# Altium schematic symbol library NXP Semiconductors Cortex-M3.SchLib: 52 symbols (part 2 of 7)
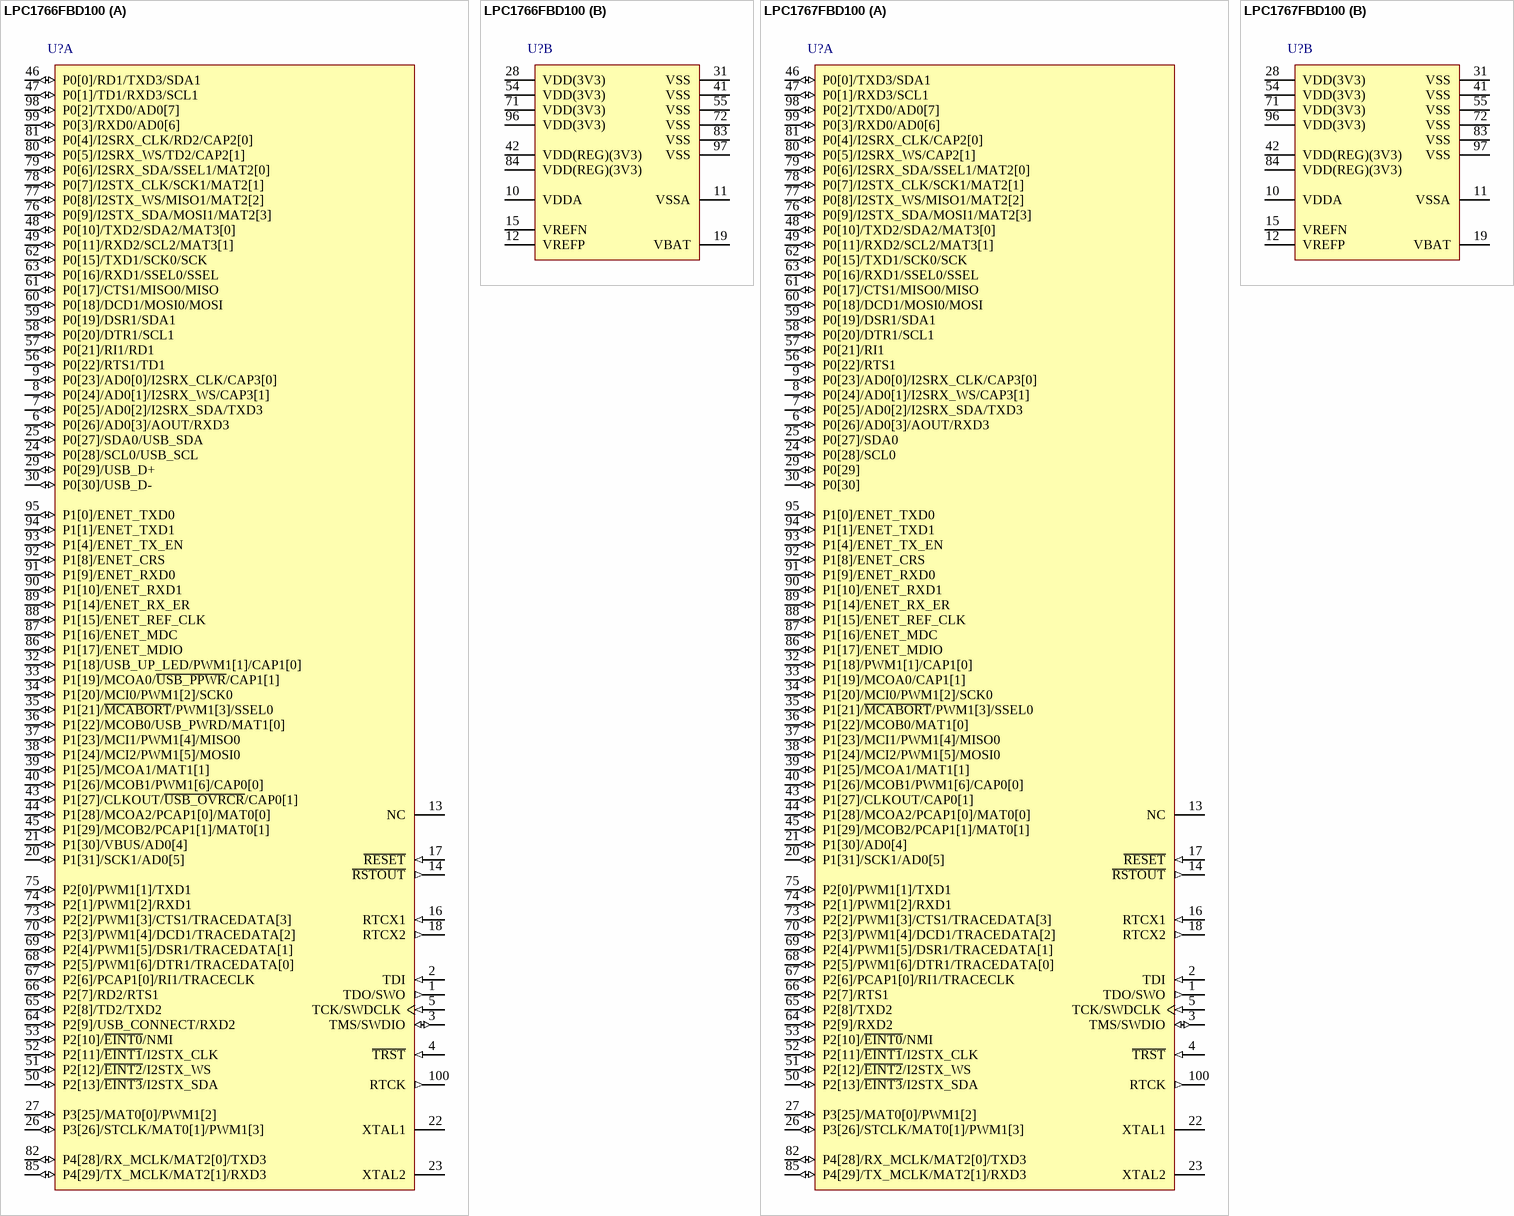
[diagram p47: symbols LPC1766FBD100 to LPC1767FBD100]

## LPC1767FBD100
designator U?
Cortex-M3, 32-Bit ARM MCU, 512 kB flash, 64 kB SRAM, Ethernet, 12-Bit ADC, DAC, I2S, 100-Pin LQFP; PartNumber: LPC1767FBD100; fmax: 100 MHz; SRAM: 64 kB; Flash: 512 kB; GPIOs: 70; UART: 4; SPI: 1; SSP: 2; PWM: 6; PLL: Y; ADC channels: 8; VDD (min): 2.4 V; VDD (typ): 3.3 V; VDD (max): 3.6 V; Code_IEC: 136E20; DatasheetVersion: Rev. 8, Nov-2011; PackageVersion: 37672; PackageReference: SOT407-1; PackageDescription: LQFP100: Plastic Low Profile Quad Flat Package; 100 Leads; Body 14 x 14 x 1.4 mm; Timers: 4; Code_JEDEC: MS-026; ComponentLink1Description: Manufacturer URL; ComponentLink1URL: http://www.nxp.com/; ComponentLink2Description: Datasheet; ComponentLink2URL: http://www.nxp.com/documents/data_sheet/LPC1769_68_67_66_65_64_63.pdf
footprint SOT407-1_V (Thin QFP, 100-Leads, Body 14x14mm, Pitch 0.5mm, NXP Recommended)
footprint SOT407-1_N (Thin QFP, 100-Leads, Body 14x14mm, Pitch 0.5mm, IPC Medium Density)
footprint SOT407-1_L (Thin QFP, 100-Leads, Body 14x14mm, Pitch 0.5mm, IPC High Density)
footprint SOT407-1_M (Thin QFP, 100-Leads, Body 14x14mm, Pitch 0.5mm, IPC Low Density)
part A pins: 1 TDO/SWO (out), 2 TDI (in), 3 TMS/SWDIO (io), 4 ~{TRST} (in), 5 TCK/SWDCLK (in), 6 P0[26]/AD0[3]/AOUT/RXD3 (io), 7 P0[25]/AD0[2]/I2SRX_SDA/TXD3 (io), 8 P0[24]/AD0[1]/I2SRX_WS/CAP3[1] (io), 9 P0[23]/AD0[0]/I2SRX_CLK/CAP3[0] (io), 13 NC, 14 ~{RSTOUT} (out), 16 RTCX1 (in), 17 ~{RESET} (in), 18 RTCX2 (out), 20 P1[31]/SCK1/AD0[5] (io), 21 P1[30]/AD0[4] (io), 22 XTAL1, 23 XTAL2, 24 P0[28]/SCL0 (io), 25 P0[27]/SDA0 (io), 26 P3[26]/STCLK/MAT0[1]/PWM1[3] (io), 27 P3[25]/MAT0[0]/PWM1[2] (io), 29 P0[29] (io), 30 P0[30] (io), 32 P1[18]/PWM1[1]/CAP1[0] (io), 33 P1[19]/MCOA0/CAP1[1] (io), 34 P1[20]/MCI0/PWM1[2]/SCK0 (io), 35 P1[21]/~{MCABORT}/PWM1[3]/SSEL0 (io), 36 P1[22]/MCOB0/MAT1[0] (io), 37 P1[23]/MCI1/PWM1[4]/MISO0 (io), 38 P1[24]/MCI2/PWM1[5]/MOSI0 (io), 39 P1[25]/MCOA1/MAT1[1] (io), 40 P1[26]/MCOB1/PWM1[6]/CAP0[0] (io), 43 P1[27]/CLKOUT/CAP0[1] (io), 44 P1[28]/MCOA2/PCAP1[0]/MAT0[0] (io), 45 P1[29]/MCOB2/PCAP1[1]/MAT0[1] (io), 46 P0[0]/TXD3/SDA1 (io), 47 P0[1]/RXD3/SCL1 (io), 48 P0[10]/TXD2/SDA2/MAT3[0] (io), 49 P0[11]/RXD2/SCL2/MAT3[1] (io), 50 P2[13]/~{EINT3}/I2STX_SDA (io), 51 P2[12]/~{EINT2}/I2STX_WS (io), 52 P2[11]/~{EINT1}/I2STX_CLK (io), 53 P2[10]/~{EINT0}/NMI (io), 56 P0[22]/RTS1 (io), 57 P0[21]/RI1 (io), 58 P0[20]/DTR1/SCL1 (io), 59 P0[19]/DSR1/SDA1 (io), 60 P0[18]/DCD1/MOSI0/MOSI (io), 61 P0[17]/CTS1/MISO0/MISO (io), 62 P0[15]/TXD1/SCK0/SCK (io), 63 P0[16]/RXD1/SSEL0/SSEL (io), 64 P2[9]/RXD2 (io), 65 P2[8]/TXD2 (io), 66 P2[7]/RTS1 (io), 67 P2[6]/PCAP1[0]/RI1/TRACECLK (io), 68 P2[5]/PWM1[6]/DTR1/TRACEDATA[0] (io), 69 P2[4]/PWM1[5]/DSR1/TRACEDATA[1] (io), 70 P2[3]/PWM1[4]/DCD1/TRACEDATA[2] (io), 73 P2[2]/PWM1[3]/CTS1/TRACEDATA[3] (io), 74 P2[1]/PWM1[2]/RXD1 (io), 75 P2[0]/PWM1[1]/TXD1 (io), 76 P0[9]/I2STX_SDA/MOSI1/MAT2[3] (io), 77 P0[8]/I2STX_WS/MISO1/MAT2[2] (io), 78 P0[7]/I2STX_CLK/SCK1/MAT2[1] (io), 79 P0[6]/I2SRX_SDA/SSEL1/MAT2[0] (io), 80 P0[5]/I2SRX_WS/CAP2[1] (io), 81 P0[4]/I2SRX_CLK/CAP2[0] (io), 82 P4[28]/RX_MCLK/MAT2[0]/TXD3 (io), 85 P4[29]/TX_MCLK/MAT2[1]/RXD3 (io), 86 P1[17]/ENET_MDIO (io), 87 P1[16]/ENET_MDC (io), 88 P1[15]/ENET_REF_CLK (io), 89 P1[14]/ENET_RX_ER (io), 90 P1[10]/ENET_RXD1 (io), 91 P1[9]/ENET_RXD0 (io), 92 P1[8]/ENET_CRS (io), 93 P1[4]/ENET_TX_EN (io), 94 P1[1]/ENET_TXD1 (io), 95 P1[0]/ENET_TXD0 (io), 98 P0[2]/TXD0/AD0[7] (io), 99 P0[3]/RXD0/AD0[6] (io), 100 RTCK (out)
part B pins: 10 VDDA (power), 11 VSSA (power), 12 VREFP (power), 15 VREFN (power), 19 VBAT (power), 28 VDD(3V3) (power), 31 VSS (power), 41 VSS (power), 42 VDD(REG)(3V3) (power), 54 VDD(3V3) (power), 55 VSS (power), 71 VDD(3V3) (power), 72 VSS (power), 83 VSS (power), 84 VDD(REG)(3V3) (power), 96 VDD(3V3) (power), 97 VSS (power)

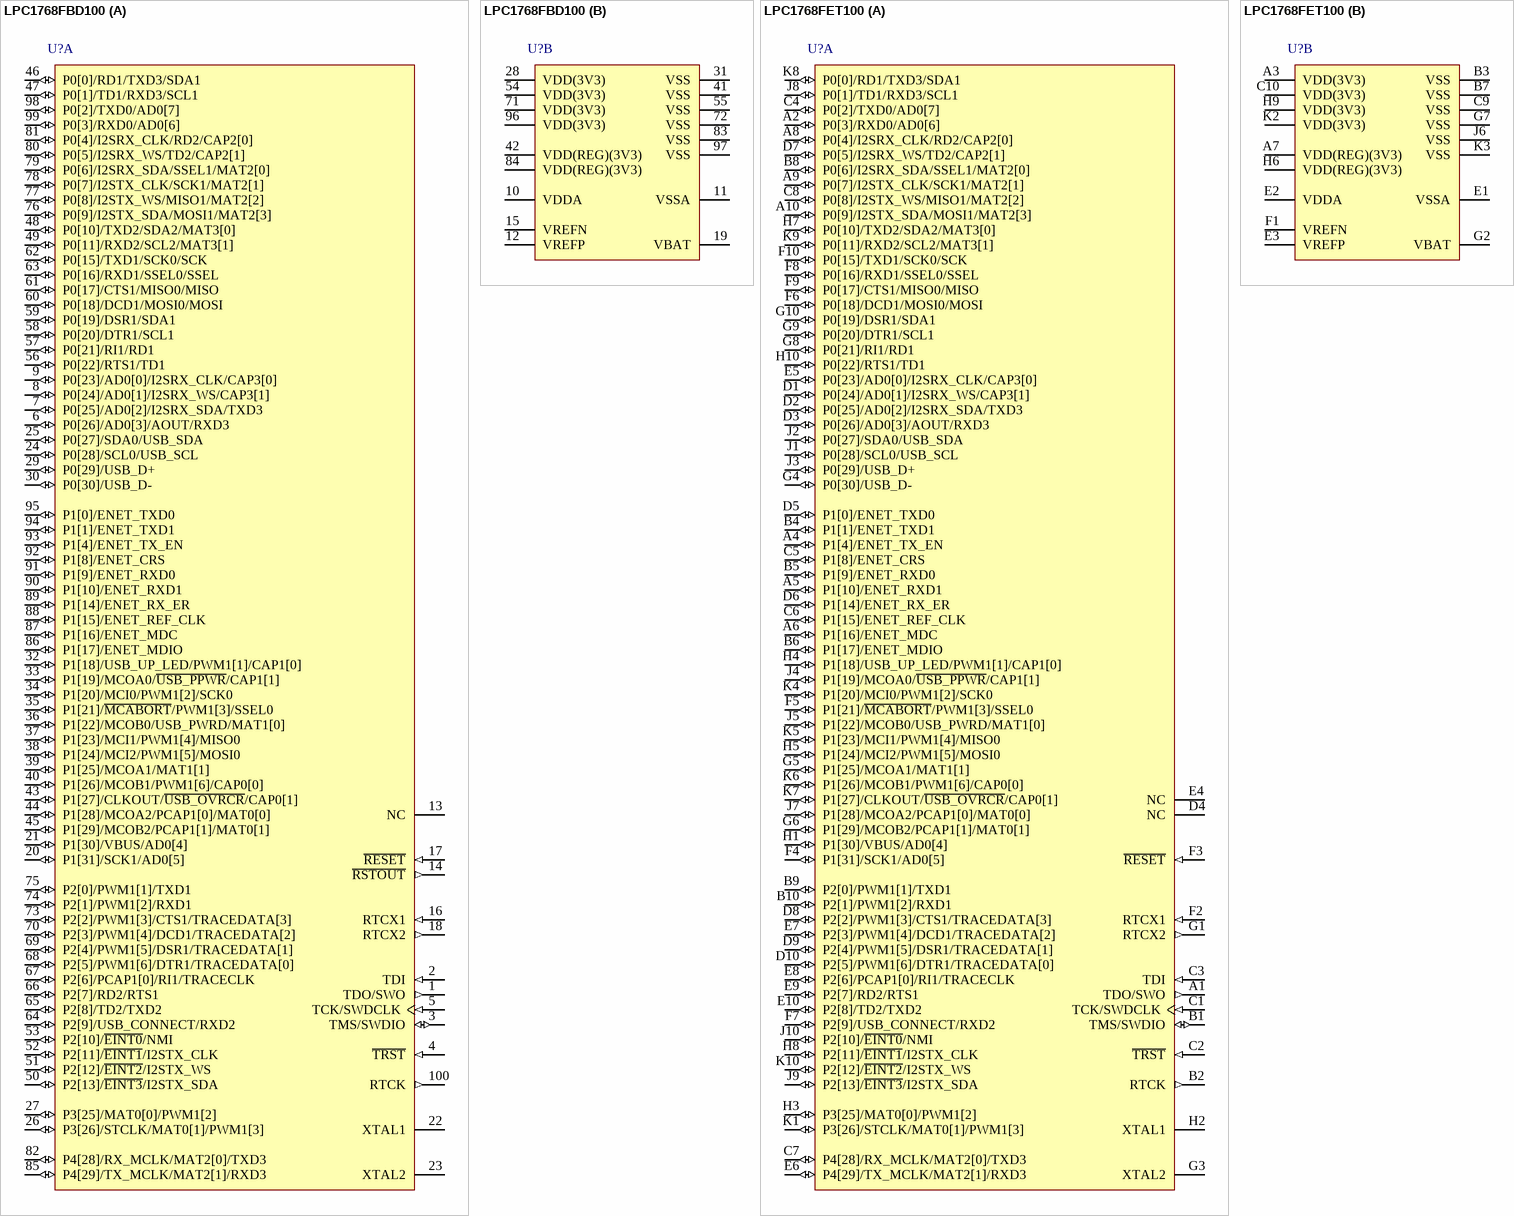
[diagram p7: symbols LPC1768FBD100 to LPC1768FET100]

## LPC1768FBD100
designator U?
32-bit ARM Cortex-M3 MCU, 512 kB Flash, 64 kB SRAM, Ethernet, USB 2.0 Device/Host/OTG, 12-Bit ADC, DAC, I2S, 100-Pin LQFP; PartNumber: LPC1768FBD100; fmax: 100 MHz; SRAM: 64 kB; Flash: 512 kB; GPIOs: 70; USB: 1; CAN: 2; UART: 4; PWM: 6; PLL: Y; ADC channels: 8; VDD (min): 2.4 V; VDD (typ): 3.3 V; VDD (max): 3.6 V; Code_IEC: 136E20; DatasheetVersion: Rev. 8, Nov-2011; PackageVersion: Feb-2003; PackageReference: SOT407-1; PackageDescription: LQFP100: Plastic Low Profile Quad Flat Package; 100 Leads; Body 14 x 14 x 1.4 mm; SPI: 1; SSP: 2; Timers: 4; Code_JEDEC: MS-026; ComponentLink1Description: Manufacturer URL; ComponentLink1URL: http://www.nxp.com/; ComponentLink2Description: Datasheet; ComponentLink2URL: http://www.nxp.com/documents/data_sheet/LPC1769_68_67_66_65_64_63.pdf
footprint SOT407-1_V (Thin QFP, 100-Leads, Body 14x14mm, Pitch 0.5mm, NXP Recommended)
footprint SOT407-1_N (Thin QFP, 100-Leads, Body 14x14mm, Pitch 0.5mm, IPC Medium Density)
footprint SOT407-1_L (Thin QFP, 100-Leads, Body 14x14mm, Pitch 0.5mm, IPC High Density)
footprint SOT407-1_M (Thin QFP, 100-Leads, Body 14x14mm, Pitch 0.5mm, IPC Low Density)
part A pins: 1 TDO/SWO (out), 2 TDI (in), 3 TMS/SWDIO (io), 4 ~{TRST} (in), 5 TCK/SWDCLK (in), 6 P0[26]/AD0[3]/AOUT/RXD3 (io), 7 P0[25]/AD0[2]/I2SRX_SDA/TXD3 (io), 8 P0[24]/AD0[1]/I2SRX_WS/CAP3[1] (io), 9 P0[23]/AD0[0]/I2SRX_CLK/CAP3[0] (io), 13 NC, 14 ~{RSTOUT} (out), 16 RTCX1 (in), 17 ~{RESET} (in), 18 RTCX2 (out), 20 P1[31]/SCK1/AD0[5] (io), 21 P1[30]/VBUS/AD0[4] (io), 22 XTAL1, 23 XTAL2, 24 P0[28]/SCL0/USB_SCL (io), 25 P0[27]/SDA0/USB_SDA (io), 26 P3[26]/STCLK/MAT0[1]/PWM1[3] (io), 27 P3[25]/MAT0[0]/PWM1[2] (io), 29 P0[29]/USB_D+ (io), 30 P0[30]/USB_D- (io), 32 P1[18]/USB_UP_LED/PWM1[1]/CAP1[0] (io), 33 P1[19]/MCOA0/~{USB_PPWR}/CAP1[1] (io), 34 P1[20]/MCI0/PWM1[2]/SCK0 (io), 35 P1[21]/~{MCABORT}/PWM1[3]/SSEL0 (io), 36 P1[22]/MCOB0/USB_PWRD/MAT1[0] (io), 37 P1[23]/MCI1/PWM1[4]/MISO0 (io), 38 P1[24]/MCI2/PWM1[5]/MOSI0 (io), 39 P1[25]/MCOA1/MAT1[1] (io), 40 P1[26]/MCOB1/PWM1[6]/CAP0[0] (io), 43 P1[27]/CLKOUT/~{USB_OVRCR}/CAP0[1] (io), 44 P1[28]/MCOA2/PCAP1[0]/MAT0[0] (io), 45 P1[29]/MCOB2/PCAP1[1]/MAT0[1] (io), 46 P0[0]/RD1/TXD3/SDA1 (io), 47 P0[1]/TD1/RXD3/SCL1 (io), 48 P0[10]/TXD2/SDA2/MAT3[0] (io), 49 P0[11]/RXD2/SCL2/MAT3[1] (io), 50 P2[13]/~{EINT3}/I2STX_SDA (io), 51 P2[12]/~{EINT2}/I2STX_WS (io), 52 P2[11]/~{EINT1}/I2STX_CLK (io), 53 P2[10]/~{EINT0}/NMI (io), 56 P0[22]/RTS1/TD1 (io), 57 P0[21]/RI1/RD1 (io), 58 P0[20]/DTR1/SCL1 (io), 59 P0[19]/DSR1/SDA1 (io), 60 P0[18]/DCD1/MOSI0/MOSI (io), 61 P0[17]/CTS1/MISO0/MISO (io), 62 P0[15]/TXD1/SCK0/SCK (io), 63 P0[16]/RXD1/SSEL0/SSEL (io), 64 P2[9]/USB_CONNECT/RXD2 (io), 65 P2[8]/TD2/TXD2 (io), 66 P2[7]/RD2/RTS1 (io), 67 P2[6]/PCAP1[0]/RI1/TRACECLK (io), 68 P2[5]/PWM1[6]/DTR1/TRACEDATA[0] (io), 69 P2[4]/PWM1[5]/DSR1/TRACEDATA[1] (io), 70 P2[3]/PWM1[4]/DCD1/TRACEDATA[2] (io), 73 P2[2]/PWM1[3]/CTS1/TRACEDATA[3] (io), 74 P2[1]/PWM1[2]/RXD1 (io), 75 P2[0]/PWM1[1]/TXD1 (io), 76 P0[9]/I2STX_SDA/MOSI1/MAT2[3] (io), 77 P0[8]/I2STX_WS/MISO1/MAT2[2] (io), 78 P0[7]/I2STX_CLK/SCK1/MAT2[1] (io), 79 P0[6]/I2SRX_SDA/SSEL1/MAT2[0] (io), 80 P0[5]/I2SRX_WS/TD2/CAP2[1] (io), 81 P0[4]/I2SRX_CLK/RD2/CAP2[0] (io), 82 P4[28]/RX_MCLK/MAT2[0]/TXD3 (io), 85 P4[29]/TX_MCLK/MAT2[1]/RXD3 (io), 86 P1[17]/ENET_MDIO (io), 87 P1[16]/ENET_MDC (io), 88 P1[15]/ENET_REF_CLK (io), 89 P1[14]/ENET_RX_ER (io), 90 P1[10]/ENET_RXD1 (io), 91 P1[9]/ENET_RXD0 (io), 92 P1[8]/ENET_CRS (io), 93 P1[4]/ENET_TX_EN (io), 94 P1[1]/ENET_TXD1 (io), 95 P1[0]/ENET_TXD0 (io), 98 P0[2]/TXD0/AD0[7] (io), 99 P0[3]/RXD0/AD0[6] (io), 100 RTCK (out)
part B pins: 10 VDDA (power), 11 VSSA (power), 12 VREFP (power), 15 VREFN (power), 19 VBAT (power), 28 VDD(3V3) (power), 31 VSS (power), 41 VSS (power), 42 VDD(REG)(3V3) (power), 54 VDD(3V3) (power), 55 VSS (power), 71 VDD(3V3) (power), 72 VSS (power), 83 VSS (power), 84 VDD(REG)(3V3) (power), 96 VDD(3V3) (power), 97 VSS (power)

## LPC1768FET100
designator U?
32-bit ARM Cortex-M3 MCU, 512 kB Flash, 64 kB SRAM, Ethernet, USB 2.0 Device/Host/OTG, 12-Bit ADC, DAC, I2S, 100-Ball TFBGA; PartNumber: LPC1768FET100; fmax: 100 MHz; SRAM: 64 kB; Flash: 512 kB; GPIOs: 70; USB: 1; CAN: 2; UART: 4; PWM: 6; PLL: Y; ADC channels: 8; VDD (min): 2.4 V; VDD (typ): 3.3 V; VDD (max): 3.6 V; DatasheetVersion: Rev. 8, Nov-2011; PackageVersion: Dec-2005; PackageReference: SOT926-1; PackageDescription: TFBGA100: Plastic Thin Fine-Pitch Ball Grid Array Package; 100 Balls; Body 9 x 9 x 0.7 mm; SPI: 1; SSP: 2; Timers: 4; ComponentLink1Description: Manufacturer URL; ComponentLink1URL: http://www.nxp.com/; ComponentLink2Description: Datasheet; ComponentLink2URL: http://www.nxp.com/documents/data_sheet/LPC1769_68_67_66_65_64_63.pdf
footprint SOT926-1 (BGA, 100-Leads, Body 9x9mm, Pitch 0.8mm)
part A pins: A1 TDO/SWO (out), A2 P0[3]/RXD0/AD0[6] (io), A4 P1[4]/ENET_TX_EN (io), A5 P1[10]/ENET_RXD1 (io), A6 P1[16]/ENET_MDC (io), A8 P0[4]/I2SRX_CLK/RD2/CAP2[0] (io), A9 P0[7]/I2STX_CLK/SCK1/MAT2[1] (io), A10 P0[9]/I2STX_SDA/MOSI1/MAT2[3] (io), B1 TMS/SWDIO (io), B2 RTCK (out), B4 P1[1]/ENET_TXD1 (io), B5 P1[9]/ENET_RXD0 (io), B6 P1[17]/ENET_MDIO (io), B8 P0[6]/I2SRX_SDA/SSEL1/MAT2[0] (io), B9 P2[0]/PWM1[1]/TXD1 (io), B10 P2[1]/PWM1[2]/RXD1 (io), C1 TCK/SWDCLK (in), C2 ~{TRST} (in), C3 TDI (in), C4 P0[2]/TXD0/AD0[7] (io), C5 P1[8]/ENET_CRS (io), C6 P1[15]/ENET_REF_CLK (io), C7 P4[28]/RX_MCLK/MAT2[0]/TXD3 (io), C8 P0[8]/I2STX_WS/MISO1/MAT2[2] (io), D1 P0[24]/AD0[1]/I2SRX_WS/CAP3[1] (io), D2 P0[25]/AD0[2]/I2SRX_SDA/TXD3 (io), D3 P0[26]/AD0[3]/AOUT/RXD3 (io), D4 NC, D5 P1[0]/ENET_TXD0 (io), D6 P1[14]/ENET_RX_ER (io), D7 P0[5]/I2SRX_WS/TD2/CAP2[1] (io), D8 P2[2]/PWM1[3]/CTS1/TRACEDATA[3] (io), D9 P2[4]/PWM1[5]/DSR1/TRACEDATA[1] (io), D10 P2[5]/PWM1[6]/DTR1/TRACEDATA[0] (io), E4 NC, E5 P0[23]/AD0[0]/I2SRX_CLK/CAP3[0] (io), E6 P4[29]/TX_MCLK/MAT2[1]/RXD3 (io), E7 P2[3]/PWM1[4]/DCD1/TRACEDATA[2] (io), E8 P2[6]/PCAP1[0]/RI1/TRACECLK (io), E9 P2[7]/RD2/RTS1 (io), E10 P2[8]/TD2/TXD2 (io), F2 RTCX1 (in), F3 ~{RESET} (in), F4 P1[31]/SCK1/AD0[5] (io), F5 P1[21]/~{MCABORT}/PWM1[3]/SSEL0 (io), F6 P0[18]/DCD1/MOSI0/MOSI (io), F7 P2[9]/USB_CONNECT/RXD2 (io), F8 P0[16]/RXD1/SSEL0/SSEL (io), F9 P0[17]/CTS1/MISO0/MISO (io), F10 P0[15]/TXD1/SCK0/SCK (io), G1 RTCX2 (out), G3 XTAL2, G4 P0[30]/USB_D- (io), G5 P1[25]/MCOA1/MAT1[1] (io), G6 P1[29]/MCOB2/PCAP1[1]/MAT0[1] (io), G8 P0[21]/RI1/RD1 (io), G9 P0[20]/DTR1/SCL1 (io), G10 P0[19]/DSR1/SDA1 (io), H1 P1[30]/VBUS/AD0[4] (io), H2 XTAL1, H3 P3[25]/MAT0[0]/PWM1[2] (io), H4 P1[18]/USB_UP_LED/PWM1[1]/CAP1[0] (io), H5 P1[24]/MCI2/PWM1[5]/MOSI0 (io), H7 P0[10]/TXD2/SDA2/MAT3[0] (io), H8 P2[11]/~{EINT1}/I2STX_CLK (io), H10 P0[22]/RTS1/TD1 (io), J1 P0[28]/SCL0/USB_SCL (io), J2 P0[27]/SDA0/USB_SDA (io), J3 P0[29]/USB_D+ (io), J4 P1[19]/MCOA0/~{USB_PPWR}/CAP1[1] (io), J5 P1[22]/MCOB0/USB_PWRD/MAT1[0] (io), J7 P1[28]/MCOA2/PCAP1[0]/MAT0[0] (io), J8 P0[1]/TD1/RXD3/SCL1 (io), J9 P2[13]/~{EINT3}/I2STX_SDA (io), J10 P2[10]/~{EINT0}/NMI (io), K1 P3[26]/STCLK/MAT0[1]/PWM1[3] (io), K4 P1[20]/MCI0/PWM1[2]/SCK0 (io), K5 P1[23]/MCI1/PWM1[4]/MISO0 (io), K6 P1[26]/MCOB1/PWM1[6]/CAP0[0] (io), K7 P1[27]/CLKOUT/~{USB_OVRCR}/CAP0[1] (io), K8 P0[0]/RD1/TXD3/SDA1 (io), K9 P0[11]/RXD2/SCL2/MAT3[1] (io), K10 P2[12]/~{EINT2}/I2STX_WS (io)
part B pins: A3 VDD(3V3) (power), A7 VDD(REG)(3V3) (power), B3 VSS (power), B7 VSS (power), C9 VSS (power), C10 VDD(3V3) (power), E1 VSSA (power), E2 VDDA (power), E3 VREFP (power), F1 VREFN (power), G2 VBAT (power), G7 VSS (power), H6 VDD(REG)(3V3) (power), H9 VDD(3V3) (power), J6 VSS (power), K2 VDD(3V3) (power), K3 VSS (power)

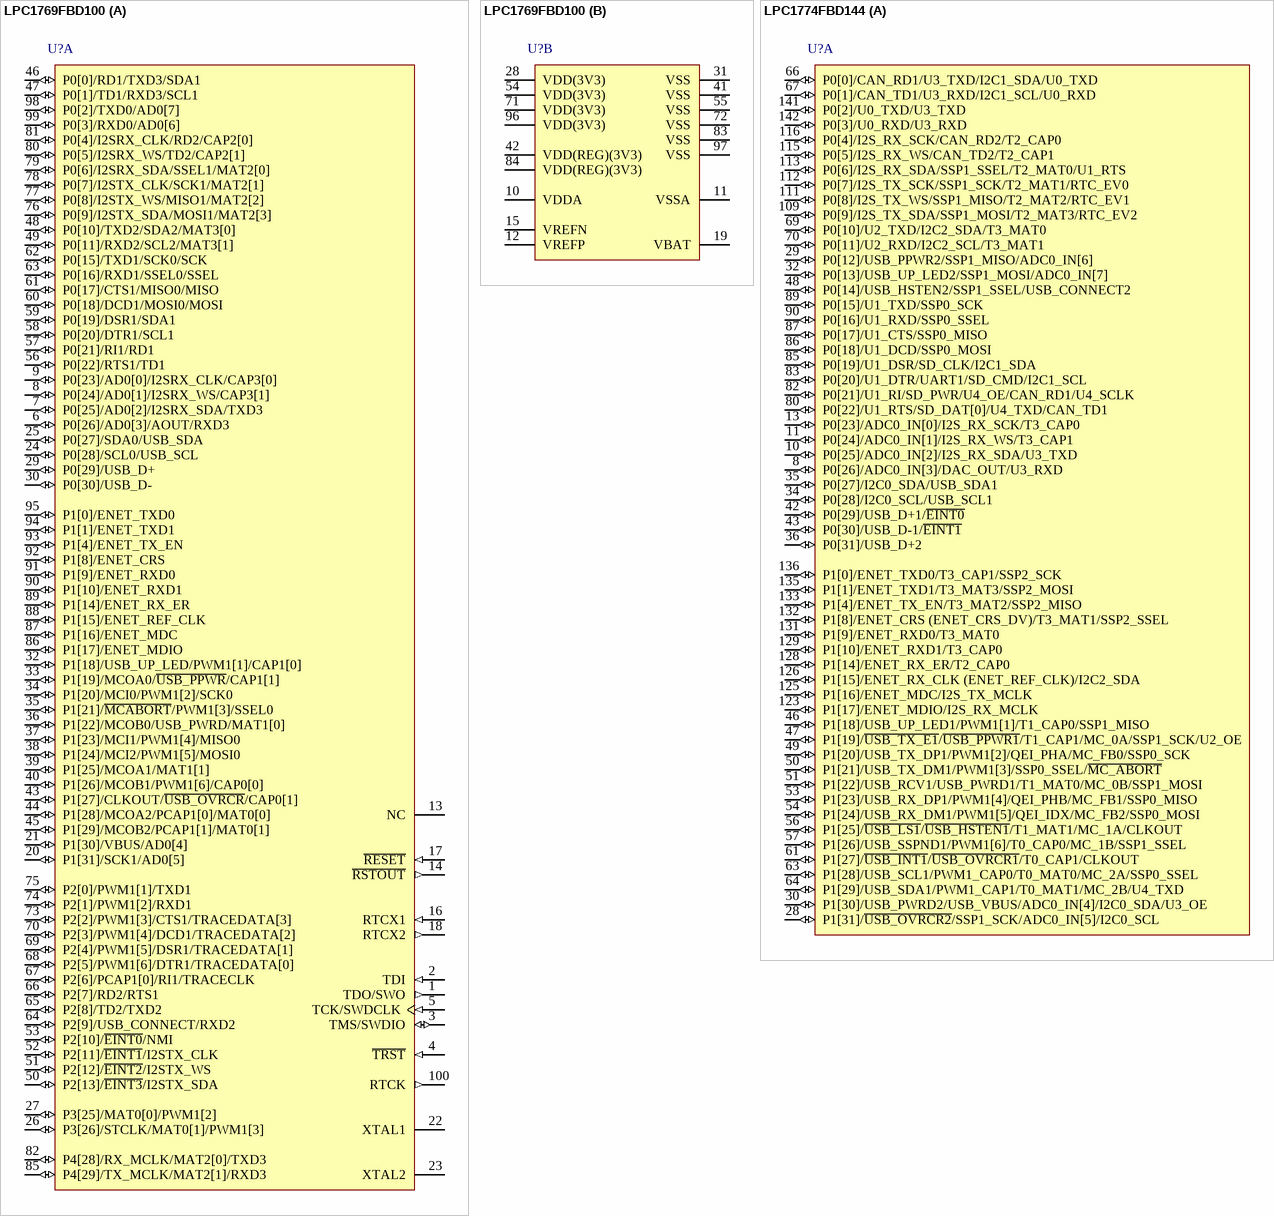
[diagram p8: symbols LPC1769FBD100 to LPC1774FBD144]

## LPC1769FBD100
designator U?
32-bit ARM Cortex-M3 MCU, 512 kB Flash, 64 kB SRAM, Ethernet, USB 2.0 Device/Host/OTG, 12-Bit ADC, DAC, I2S, 100-Pin LQFP; PartNumber: LPC1769FBD100; fmax: 120 MHz; SRAM: 64 kB; Flash: 512 kB; GPIOs: 70; USB: 1; CAN: 2; UART: 4; PWM: 6; PLL: Y; ADC channels: 8; VDD (min): 2.4 V; VDD (typ): 3.3 V; VDD (max): 3.6 V; Code_IEC: 136E20; DatasheetVersion: Rev. 8, Nov-2011; PackageVersion: Feb-2003; PackageReference: SOT407-1; PackageDescription: LQFP100: Plastic Low Profile Quad Flat Package; 100 Leads; Body 14 x 14 x 1.4 mm; SPI: 1; SSP: 2; Timers: 4; Code_JEDEC: MS-026; ComponentLink1Description: Manufacturer URL; ComponentLink1URL: http://www.nxp.com/; ComponentLink2Description: Datasheet; ComponentLink2URL: http://www.nxp.com/documents/data_sheet/LPC1769_68_67_66_65_64_63.pdf
footprint SOT407-1_V (Thin QFP, 100-Leads, Body 14x14mm, Pitch 0.5mm, NXP Recommended)
footprint SOT407-1_N (Thin QFP, 100-Leads, Body 14x14mm, Pitch 0.5mm, IPC Medium Density)
footprint SOT407-1_L (Thin QFP, 100-Leads, Body 14x14mm, Pitch 0.5mm, IPC High Density)
footprint SOT407-1_M (Thin QFP, 100-Leads, Body 14x14mm, Pitch 0.5mm, IPC Low Density)
part A pins: 1 TDO/SWO (out), 2 TDI (in), 3 TMS/SWDIO (io), 4 ~{TRST} (in), 5 TCK/SWDCLK (in), 6 P0[26]/AD0[3]/AOUT/RXD3 (io), 7 P0[25]/AD0[2]/I2SRX_SDA/TXD3 (io), 8 P0[24]/AD0[1]/I2SRX_WS/CAP3[1] (io), 9 P0[23]/AD0[0]/I2SRX_CLK/CAP3[0] (io), 13 NC, 14 ~{RSTOUT} (out), 16 RTCX1 (in), 17 ~{RESET} (in), 18 RTCX2 (out), 20 P1[31]/SCK1/AD0[5] (io), 21 P1[30]/VBUS/AD0[4] (io), 22 XTAL1, 23 XTAL2, 24 P0[28]/SCL0/USB_SCL (io), 25 P0[27]/SDA0/USB_SDA (io), 26 P3[26]/STCLK/MAT0[1]/PWM1[3] (io), 27 P3[25]/MAT0[0]/PWM1[2] (io), 29 P0[29]/USB_D+ (io), 30 P0[30]/USB_D- (io), 32 P1[18]/USB_UP_LED/PWM1[1]/CAP1[0] (io), 33 P1[19]/MCOA0/~{USB_PPWR}/CAP1[1] (io), 34 P1[20]/MCI0/PWM1[2]/SCK0 (io), 35 P1[21]/~{MCABORT}/PWM1[3]/SSEL0 (io), 36 P1[22]/MCOB0/USB_PWRD/MAT1[0] (io), 37 P1[23]/MCI1/PWM1[4]/MISO0 (io), 38 P1[24]/MCI2/PWM1[5]/MOSI0 (io), 39 P1[25]/MCOA1/MAT1[1] (io), 40 P1[26]/MCOB1/PWM1[6]/CAP0[0] (io), 43 P1[27]/CLKOUT/~{USB_OVRCR}/CAP0[1] (io), 44 P1[28]/MCOA2/PCAP1[0]/MAT0[0] (io), 45 P1[29]/MCOB2/PCAP1[1]/MAT0[1] (io), 46 P0[0]/RD1/TXD3/SDA1 (io), 47 P0[1]/TD1/RXD3/SCL1 (io), 48 P0[10]/TXD2/SDA2/MAT3[0] (io), 49 P0[11]/RXD2/SCL2/MAT3[1] (io), 50 P2[13]/~{EINT3}/I2STX_SDA (io), 51 P2[12]/~{EINT2}/I2STX_WS (io), 52 P2[11]/~{EINT1}/I2STX_CLK (io), 53 P2[10]/~{EINT0}/NMI (io), 56 P0[22]/RTS1/TD1 (io), 57 P0[21]/RI1/RD1 (io), 58 P0[20]/DTR1/SCL1 (io), 59 P0[19]/DSR1/SDA1 (io), 60 P0[18]/DCD1/MOSI0/MOSI (io), 61 P0[17]/CTS1/MISO0/MISO (io), 62 P0[15]/TXD1/SCK0/SCK (io), 63 P0[16]/RXD1/SSEL0/SSEL (io), 64 P2[9]/USB_CONNECT/RXD2 (io), 65 P2[8]/TD2/TXD2 (io), 66 P2[7]/RD2/RTS1 (io), 67 P2[6]/PCAP1[0]/RI1/TRACECLK (io), 68 P2[5]/PWM1[6]/DTR1/TRACEDATA[0] (io), 69 P2[4]/PWM1[5]/DSR1/TRACEDATA[1] (io), 70 P2[3]/PWM1[4]/DCD1/TRACEDATA[2] (io), 73 P2[2]/PWM1[3]/CTS1/TRACEDATA[3] (io), 74 P2[1]/PWM1[2]/RXD1 (io), 75 P2[0]/PWM1[1]/TXD1 (io), 76 P0[9]/I2STX_SDA/MOSI1/MAT2[3] (io), 77 P0[8]/I2STX_WS/MISO1/MAT2[2] (io), 78 P0[7]/I2STX_CLK/SCK1/MAT2[1] (io), 79 P0[6]/I2SRX_SDA/SSEL1/MAT2[0] (io), 80 P0[5]/I2SRX_WS/TD2/CAP2[1] (io), 81 P0[4]/I2SRX_CLK/RD2/CAP2[0] (io), 82 P4[28]/RX_MCLK/MAT2[0]/TXD3 (io), 85 P4[29]/TX_MCLK/MAT2[1]/RXD3 (io), 86 P1[17]/ENET_MDIO (io), 87 P1[16]/ENET_MDC (io), 88 P1[15]/ENET_REF_CLK (io), 89 P1[14]/ENET_RX_ER (io), 90 P1[10]/ENET_RXD1 (io), 91 P1[9]/ENET_RXD0 (io), 92 P1[8]/ENET_CRS (io), 93 P1[4]/ENET_TX_EN (io), 94 P1[1]/ENET_TXD1 (io), 95 P1[0]/ENET_TXD0 (io), 98 P0[2]/TXD0/AD0[7] (io), 99 P0[3]/RXD0/AD0[6] (io), 100 RTCK (out)
part B pins: 10 VDDA (power), 11 VSSA (power), 12 VREFP (power), 15 VREFN (power), 19 VBAT (power), 28 VDD(3V3) (power), 31 VSS (power), 41 VSS (power), 42 VDD(REG)(3V3) (power), 54 VDD(3V3) (power), 55 VSS (power), 71 VDD(3V3) (power), 72 VSS (power), 83 VSS (power), 84 VDD(REG)(3V3) (power), 96 VDD(3V3) (power), 97 VSS (power)

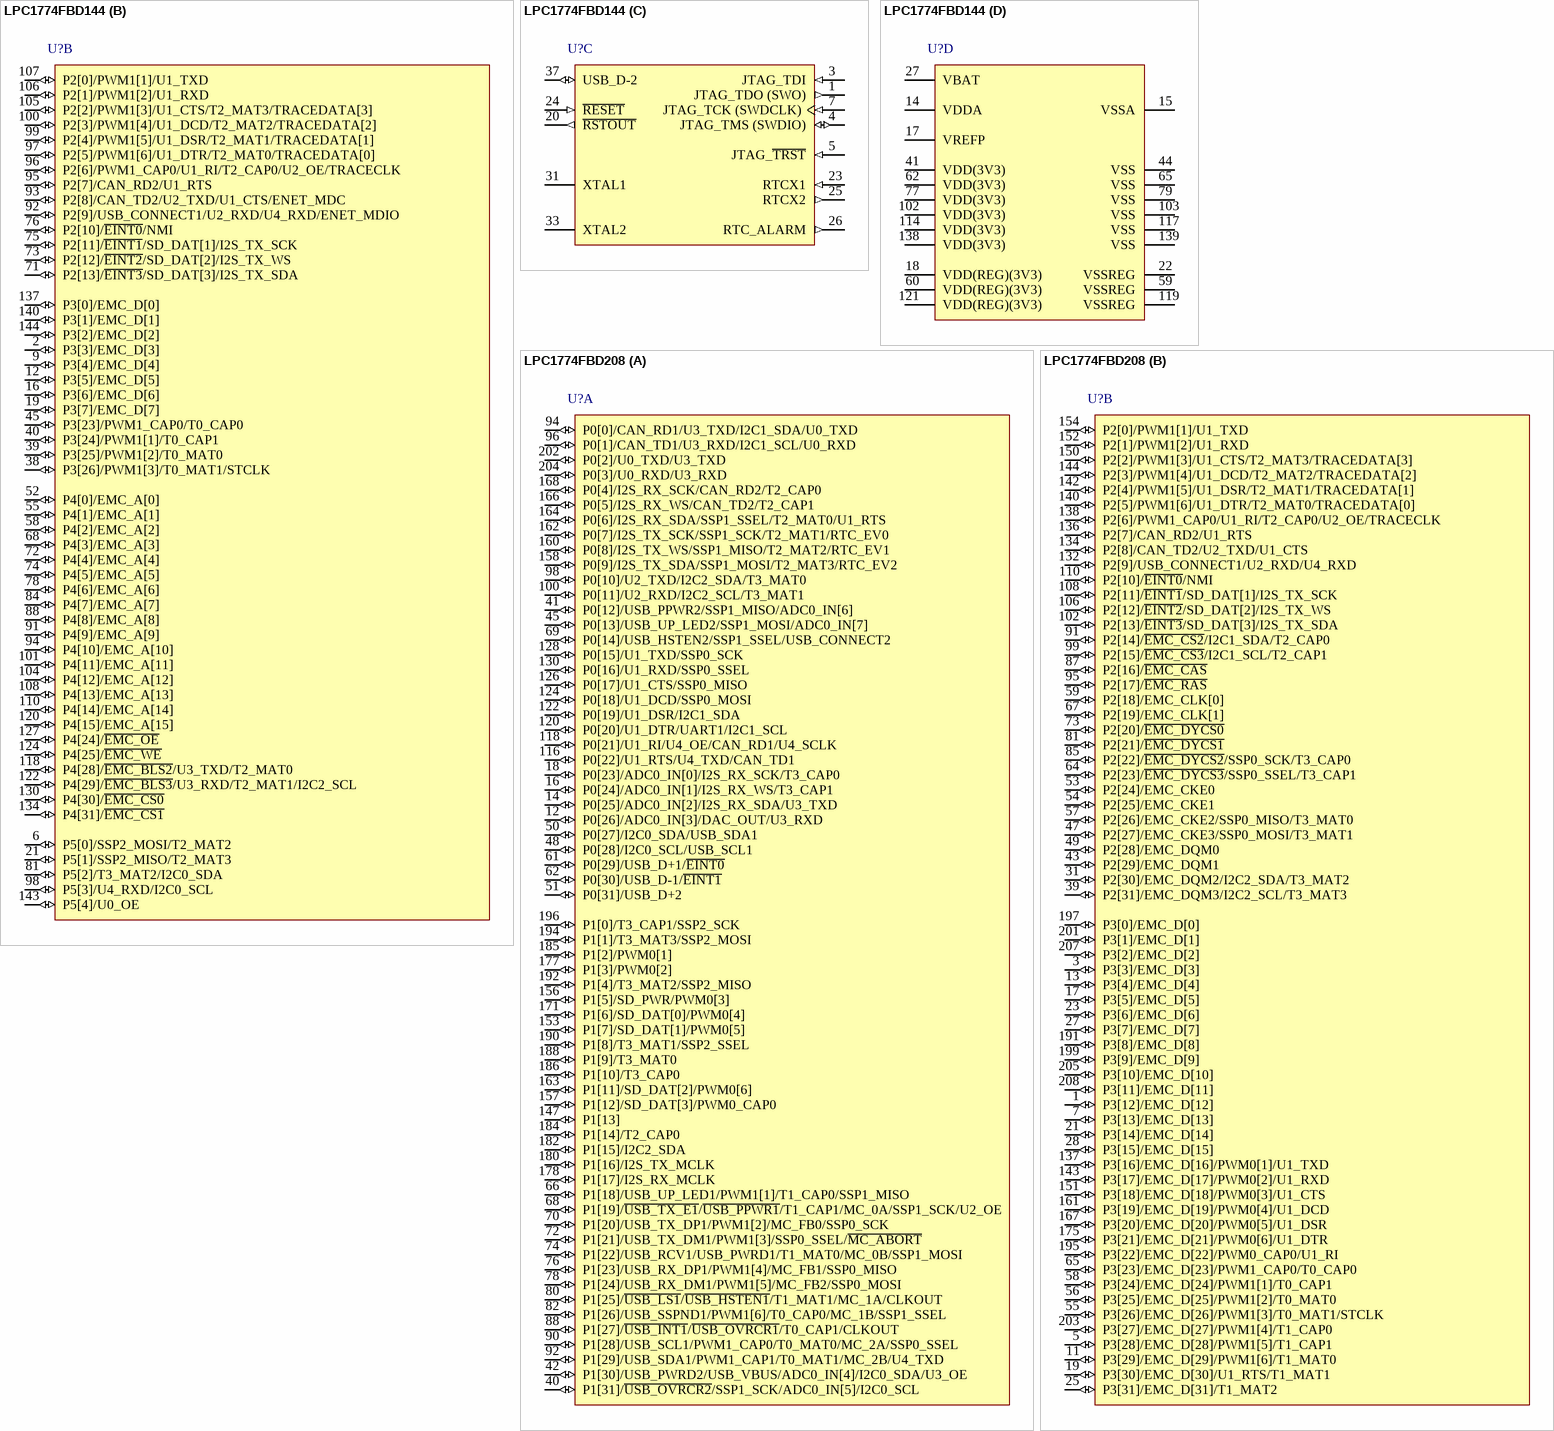
[diagram p9: symbols LPC1774FBD144 to LPC1774FBD208]

## LPC1774FBD144
designator U?
32-bit ARM Cortex-M3 MCU, 128 kB Flash, 40 kB SRAM, USB 2.0 Device, CAN, 12-Bit ADC, 144-Pin LQFP; PartNumber: LPC1774FBD144; fmax: 120 MHz; SRAM: 40 kB; Flash: 128 kB; EEPROM: 2 kB; GPIOs: 109; USB: 1; CAN: 2; UART: 4; I2C: 3; PWM: 6; PLL: Y; ADC channels: 8; VDD (min): 2.4 V; VDD (typ): 3.3 V; VDD (max): 3.6 V; Code_IEC: 136E23; DatasheetVersion: Rev. 3, Dec-2011; PackageVersion: Feb-2003; PackageReference: SOT486-1; PackageDescription: LQFP144: Plastic Low Profile Quad Flat Package; 144 Leads; Body 20 x 20 x 1.4 mm; SSP: 3; Timers: 4; Code_JEDEC: MS-026; ComponentLink1Description: Manufacturer URL; ComponentLink1URL: http://www.nxp.com/; ComponentLink2Description: Datasheet; ComponentLink2URL: http://www.nxp.com/documents/data_sheet/LPC178X_7X.pdf
footprint SOT486-1_V (Thin QFP, 144-Leads, Body 20x20mm, Pitch 0.5mm, NXP Recommended)
part A pins: 8 P0[26]/ADC0_IN[3]/DAC_OUT/U3_RXD (io), 10 P0[25]/ADC0_IN[2]/I2S_RX_SDA/U3_TXD (io), 11 P0[24]/ADC0_IN[1]/I2S_RX_WS/T3_CAP1 (io), 13 P0[23]/ADC0_IN[0]/I2S_RX_SCK/T3_CAP0 (io), 28 P1[31]/~{USB_OVRCR2}/SSP1_SCK/ADC0_IN[5]/I2C0_SCL (io), 29 P0[12]/USB_PPWR2/SSP1_MISO/ADC0_IN[6] (io), 30 P1[30]/USB_PWRD2/USB_VBUS/ADC0_IN[4]/I2C0_SDA/U3_OE (io), 32 P0[13]/USB_UP_LED2/SSP1_MOSI/ADC0_IN[7] (io), 34 P0[28]/I2C0_SCL/USB_SCL1 (io), 35 P0[27]/I2C0_SDA/USB_SDA1 (io), 36 P0[31]/USB_D+2 (io), 42 P0[29]/USB_D+1/~{EINT0} (io), 43 P0[30]/USB_D-1/~{EINT1} (io), 46 P1[18]/USB_UP_LED1/PWM1[1]/T1_CAP0/SSP1_MISO (io), 47 P1[19]/~{USB_TX_E1}/~{USB_PPWR1}/T1_CAP1/MC_0A/SSP1_SCK/U2_OE (io), 48 P0[14]/USB_HSTEN2/SSP1_SSEL/USB_CONNECT2 (io), 49 P1[20]/USB_TX_DP1/PWM1[2]/QEI_PHA/MC_FB0/SSP0_SCK (io), 50 P1[21]/USB_TX_DM1/PWM1[3]/SSP0_SSEL/~{MC_ABORT} (io), 51 P1[22]/USB_RCV1/USB_PWRD1/T1_MAT0/MC_0B/SSP1_MOSI (io), 53 P1[23]/USB_RX_DP1/PWM1[4]/QEI_PHB/MC_FB1/SSP0_MISO (io), 54 P1[24]/USB_RX_DM1/PWM1[5]/QEI_IDX/MC_FB2/SSP0_MOSI (io), 56 P1[25]/~{USB_LS1}/~{USB_HSTEN1}/T1_MAT1/MC_1A/CLKOUT (io), 57 P1[26]/USB_SSPND1/PWM1[6]/T0_CAP0/MC_1B/SSP1_SSEL (io), 61 P1[27]/~{USB_INT1}/~{USB_OVRCR1}/T0_CAP1/CLKOUT (io), 63 P1[28]/USB_SCL1/PWM1_CAP0/T0_MAT0/MC_2A/SSP0_SSEL (io), 64 P1[29]/USB_SDA1/PWM1_CAP1/T0_MAT1/MC_2B/U4_TXD (io), 66 P0[0]/CAN_RD1/U3_TXD/I2C1_SDA/U0_TXD (io), 67 P0[1]/CAN_TD1/U3_RXD/I2C1_SCL/U0_RXD (io), 69 P0[10]/U2_TXD/I2C2_SDA/T3_MAT0 (io), 70 P0[11]/U2_RXD/I2C2_SCL/T3_MAT1 (io), 80 P0[22]/U1_RTS/SD_DAT[0]/U4_TXD/CAN_TD1 (io), 82 P0[21]/U1_RI/SD_PWR/U4_OE/CAN_RD1/U4_SCLK (io), 83 P0[20]/U1_DTR/UART1/SD_CMD/I2C1_SCL (io), 85 P0[19]/U1_DSR/SD_CLK/I2C1_SDA (io), 86 P0[18]/U1_DCD/SSP0_MOSI (io), 87 P0[17]/U1_CTS/SSP0_MISO (io), 89 P0[15]/U1_TXD/SSP0_SCK (io), 90 P0[16]/U1_RXD/SSP0_SSEL (io), 109 P0[9]/I2S_TX_SDA/SSP1_MOSI/T2_MAT3/RTC_EV2 (io), 111 P0[8]/I2S_TX_WS/SSP1_MISO/T2_MAT2/RTC_EV1 (io), 112 P0[7]/I2S_TX_SCK/SSP1_SCK/T2_MAT1/RTC_EV0 (io), 113 P0[6]/I2S_RX_SDA/SSP1_SSEL/T2_MAT0/U1_RTS (io), 115 P0[5]/I2S_RX_WS/CAN_TD2/T2_CAP1 (io), 116 P0[4]/I2S_RX_SCK/CAN_RD2/T2_CAP0 (io), 123 P1[17]/ENET_MDIO/I2S_RX_MCLK (io), 125 P1[16]/ENET_MDC/I2S_TX_MCLK (io), 126 P1[15]/ENET_RX_CLK (ENET_REF_CLK)/I2C2_SDA (io), 128 P1[14]/ENET_RX_ER/T2_CAP0 (io), 129 P1[10]/ENET_RXD1/T3_CAP0 (io), 131 P1[9]/ENET_RXD0/T3_MAT0 (io), 132 P1[8]/ENET_CRS (ENET_CRS_DV)/T3_MAT1/SSP2_SSEL (io), 133 P1[4]/ENET_TX_EN/T3_MAT2/SSP2_MISO (io), 135 P1[1]/ENET_TXD1/T3_MAT3/SSP2_MOSI (io), 136 P1[0]/ENET_TXD0/T3_CAP1/SSP2_SCK (io), 141 P0[2]/U0_TXD/U3_TXD (io), 142 P0[3]/U0_RXD/U3_RXD (io)
part B pins: 2 P3[3]/EMC_D[3] (io), 6 P5[0]/SSP2_MOSI/T2_MAT2 (io), 9 P3[4]/EMC_D[4] (io), 12 P3[5]/EMC_D[5] (io), 16 P3[6]/EMC_D[6] (io), 19 P3[7]/EMC_D[7] (io), 21 P5[1]/SSP2_MISO/T2_MAT3 (io), 38 P3[26]/PWM1[3]/T0_MAT1/STCLK (io), 39 P3[25]/PWM1[2]/T0_MAT0 (io), 40 P3[24]/PWM1[1]/T0_CAP1 (io), 45 P3[23]/PWM1_CAP0/T0_CAP0 (io), 52 P4[0]/EMC_A[0] (io), 55 P4[1]/EMC_A[1] (io), 58 P4[2]/EMC_A[2] (io), 68 P4[3]/EMC_A[3] (io), 71 P2[13]/~{EINT3}/SD_DAT[3]/I2S_TX_SDA (io), 72 P4[4]/EMC_A[4] (io), 73 P2[12]/~{EINT2}/SD_DAT[2]/I2S_TX_WS (io), 74 P4[5]/EMC_A[5] (io), 75 P2[11]/~{EINT1}/SD_DAT[1]/I2S_TX_SCK (io), 76 P2[10]/~{EINT0}/NMI (io), 78 P4[6]/EMC_A[6] (io), 81 P5[2]/T3_MAT2/I2C0_SDA (io), 84 P4[7]/EMC_A[7] (io), 88 P4[8]/EMC_A[8] (io), 91 P4[9]/EMC_A[9] (io), 92 P2[9]/USB_CONNECT1/U2_RXD/U4_RXD/ENET_MDIO (io), 93 P2[8]/CAN_TD2/U2_TXD/U1_CTS/ENET_MDC (io), 94 P4[10]/EMC_A[10] (io), 95 P2[7]/CAN_RD2/U1_RTS (io), 96 P2[6]/PWM1_CAP0/U1_RI/T2_CAP0/U2_OE/TRACECLK (io), 97 P2[5]/PWM1[6]/U1_DTR/T2_MAT0/TRACEDATA[0] (io), 98 P5[3]/U4_RXD/I2C0_SCL (io), 99 P2[4]/PWM1[5]/U1_DSR/T2_MAT1/TRACEDATA[1] (io), 100 P2[3]/PWM1[4]/U1_DCD/T2_MAT2/TRACEDATA[2] (io), 101 P4[11]/EMC_A[11] (io), 104 P4[12]/EMC_A[12] (io), 105 P2[2]/PWM1[3]/U1_CTS/T2_MAT3/TRACEDATA[3] (io), 106 P2[1]/PWM1[2]/U1_RXD (io), 107 P2[0]/PWM1[1]/U1_TXD (io), 108 P4[13]/EMC_A[13] (io), 110 P4[14]/EMC_A[14] (io), 118 P4[28]/~{EMC_BLS2}/U3_TXD/T2_MAT0 (io), 120 P4[15]/EMC_A[15] (io), 122 P4[29]/~{EMC_BLS3}/U3_RXD/T2_MAT1/I2C2_SCL (io), 124 P4[25]/~{EMC_WE} (io), 127 P4[24]/~{EMC_OE} (io), 130 P4[30]/~{EMC_CS0} (io), 134 P4[31]/~{EMC_CS1} (io), 137 P3[0]/EMC_D[0] (io), 140 P3[1]/EMC_D[1] (io), 143 P5[4]/U0_OE (io), 144 P3[2]/EMC_D[2] (io)
part C pins: 1 JTAG_TDO (SWO) (out), 3 JTAG_TDI (in), 4 JTAG_TMS (SWDIO) (io), 5 JTAG_~{TRST} (in), 7 JTAG_TCK (SWDCLK) (in), 20 ~{RSTOUT} (out), 23 RTCX1 (in), 24 ~{RESET} (in), 25 RTCX2 (out), 26 RTC_ALARM (out), 31 XTAL1, 33 XTAL2, 37 USB_D-2 (io)
part D pins: 14 VDDA (power), 15 VSSA (power), 17 VREFP (power), 18 VDD(REG)(3V3) (power), 22 VSSREG (power), 27 VBAT (power), 41 VDD(3V3) (power), 44 VSS (power), 59 VSSREG (power), 60 VDD(REG)(3V3) (power), 62 VDD(3V3) (power), 65 VSS (power), 77 VDD(3V3) (power), 79 VSS (power), 102 VDD(3V3) (power), 103 VSS (power), 114 VDD(3V3) (power), 117 VSS (power), 119 VSSREG (power), 121 VDD(REG)(3V3) (power), 138 VDD(3V3) (power), 139 VSS (power)

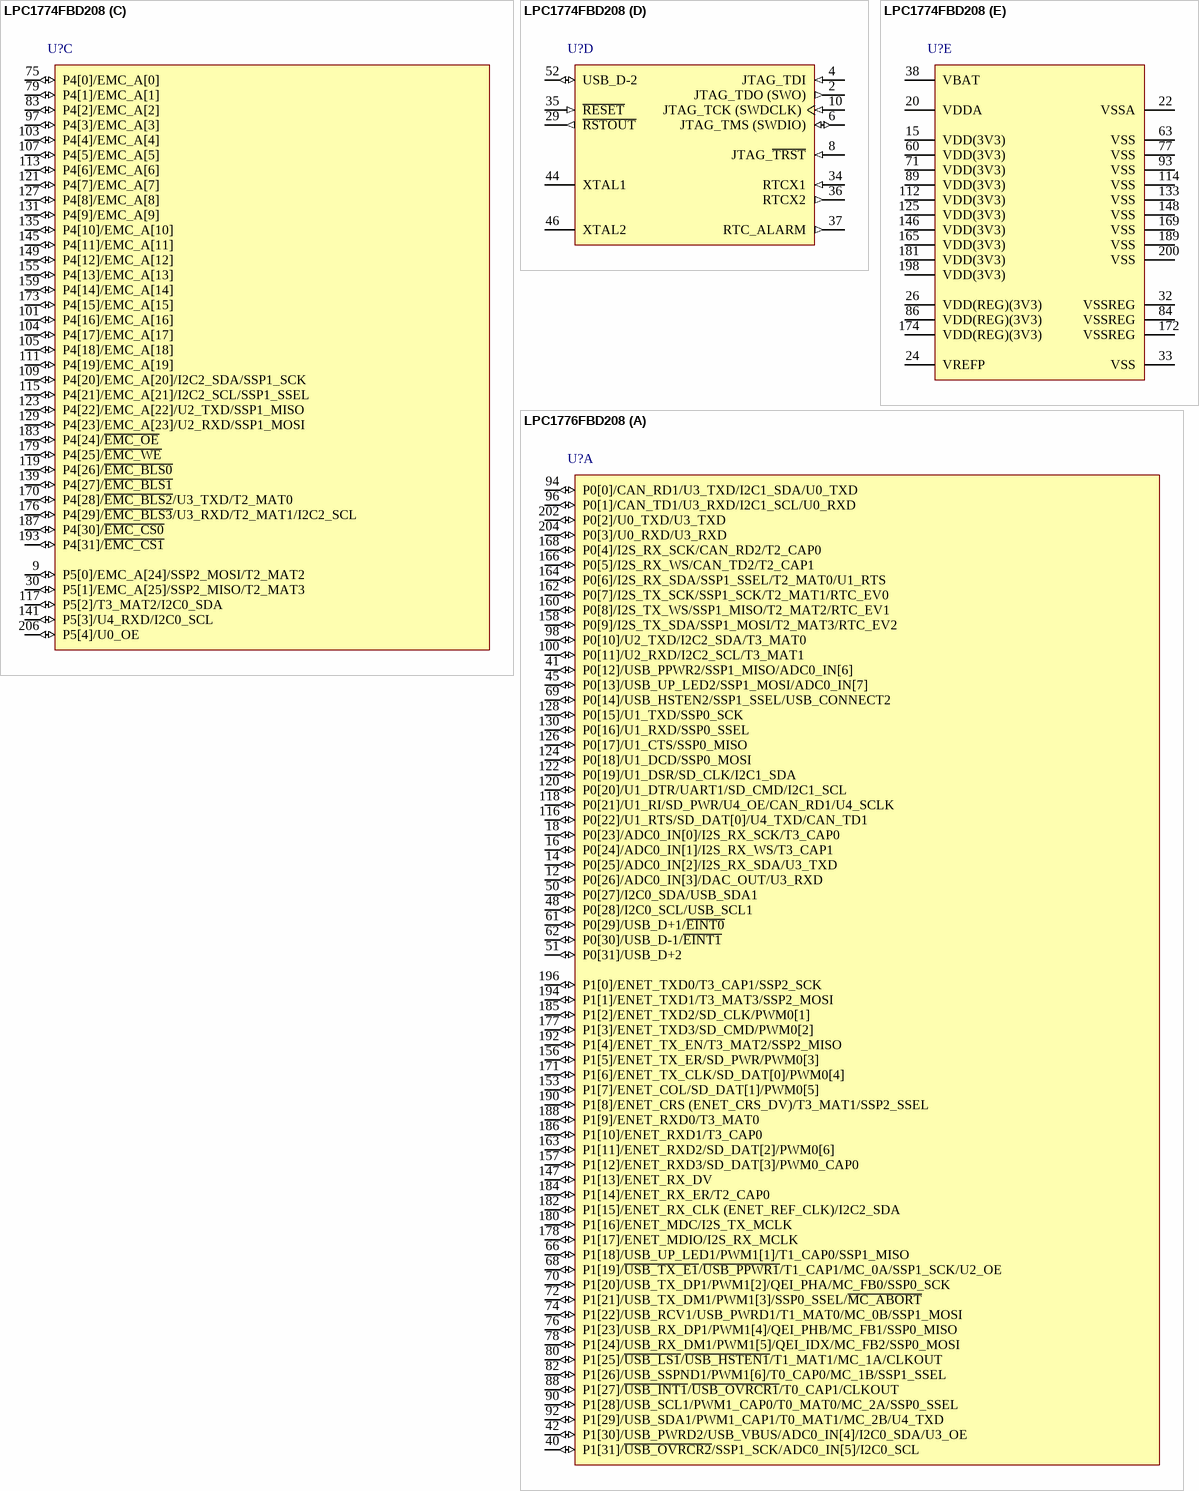
[diagram p10: symbols LPC1774FBD208 to LPC1776FBD208]

## LPC1774FBD208
designator U?
32-bit ARM Cortex-M3 MCU, 128 kB Flash, 40 kB SRAM, USB 2.0 Device, CAN, 12-Bit ADC, 208-Pin LQFP; PartNumber: LPC1774FBD208; fmax: 120 MHz; SRAM: 40 kB; Flash: 128 kB; EEPROM: 2 kB; GPIOs: 165; USB: 1; CAN: 2; UART: 5; I2C: 3; PWM: 6; PLL: Y; ADC channels: 8; Timers: 4; VDD (min): 2.4 V; VDD (typ): 3.3 V; VDD (max): 3.6 V; Code_IEC: 136E30; DatasheetVersion: Rev. 3, Dec-2011; PackageVersion: Feb-2003; PackageReference: SOT459-1; PackageDescription: LQFP208; Plastic Low Profile Quad Flat Package; 208 Leads; Body 28 x 28 x 1.4 mm; SSP: 3; Code_JEDEC: MS-026; ComponentLink1Description: Manufacturer URL; ComponentLink1URL: http://www.nxp.com/; ComponentLink2Description: Datasheet; ComponentLink2URL: http://www.nxp.com/documents/data_sheet/LPC178X_7X.pdf
footprint SOT459-1_V (Thin QFP, 208-Leads, Body 28x28mm, Pitch 0.5mm, NXP Recommended)
part A pins: 12 P0[26]/ADC0_IN[3]/DAC_OUT/U3_RXD (io), 14 P0[25]/ADC0_IN[2]/I2S_RX_SDA/U3_TXD (io), 16 P0[24]/ADC0_IN[1]/I2S_RX_WS/T3_CAP1 (io), 18 P0[23]/ADC0_IN[0]/I2S_RX_SCK/T3_CAP0 (io), 40 P1[31]/~{USB_OVRCR2}/SSP1_SCK/ADC0_IN[5]/I2C0_SCL (io), 41 P0[12]/USB_PPWR2/SSP1_MISO/ADC0_IN[6] (io), 42 P1[30]/USB_PWRD2/USB_VBUS/ADC0_IN[4]/I2C0_SDA/U3_OE (io), 45 P0[13]/USB_UP_LED2/SSP1_MOSI/ADC0_IN[7] (io), 48 P0[28]/I2C0_SCL/USB_SCL1 (io), 50 P0[27]/I2C0_SDA/USB_SDA1 (io), 51 P0[31]/USB_D+2 (io), 61 P0[29]/USB_D+1/~{EINT0} (io), 62 P0[30]/USB_D-1/~{EINT1} (io), 66 P1[18]/USB_UP_LED1/PWM1[1]/T1_CAP0/SSP1_MISO (io), 68 P1[19]/~{USB_TX_E1}/~{USB_PPWR1}/T1_CAP1/MC_0A/SSP1_SCK/U2_OE (io), 69 P0[14]/USB_HSTEN2/SSP1_SSEL/USB_CONNECT2 (io), 70 P1[20]/USB_TX_DP1/PWM1[2]/MC_FB0/SSP0_SCK (io), 72 P1[21]/USB_TX_DM1/PWM1[3]/SSP0_SSEL/~{MC_ABORT} (io), 74 P1[22]/USB_RCV1/USB_PWRD1/T1_MAT0/MC_0B/SSP1_MOSI (io), 76 P1[23]/USB_RX_DP1/PWM1[4]/MC_FB1/SSP0_MISO (io), 78 P1[24]/USB_RX_DM1/PWM1[5]/MC_FB2/SSP0_MOSI (io), 80 P1[25]/~{USB_LS1}/~{USB_HSTEN1}/T1_MAT1/MC_1A/CLKOUT (io), 82 P1[26]/USB_SSPND1/PWM1[6]/T0_CAP0/MC_1B/SSP1_SSEL (io), 88 P1[27]/~{USB_INT1}/~{USB_OVRCR1}/T0_CAP1/CLKOUT (io), 90 P1[28]/USB_SCL1/PWM1_CAP0/T0_MAT0/MC_2A/SSP0_SSEL (io), 92 P1[29]/USB_SDA1/PWM1_CAP1/T0_MAT1/MC_2B/U4_TXD (io), 94 P0[0]/CAN_RD1/U3_TXD/I2C1_SDA/U0_TXD (io), 96 P0[1]/CAN_TD1/U3_RXD/I2C1_SCL/U0_RXD (io), 98 P0[10]/U2_TXD/I2C2_SDA/T3_MAT0 (io), 100 P0[11]/U2_RXD/I2C2_SCL/T3_MAT1 (io), 116 P0[22]/U1_RTS/U4_TXD/CAN_TD1 (io), 118 P0[21]/U1_RI/U4_OE/CAN_RD1/U4_SCLK (io), 120 P0[20]/U1_DTR/UART1/I2C1_SCL (io), 122 P0[19]/U1_DSR/I2C1_SDA (io), 124 P0[18]/U1_DCD/SSP0_MOSI (io), 126 P0[17]/U1_CTS/SSP0_MISO (io), 128 P0[15]/U1_TXD/SSP0_SCK (io), 130 P0[16]/U1_RXD/SSP0_SSEL (io), 147 P1[13] (io), 153 P1[7]/SD_DAT[1]/PWM0[5] (io), 156 P1[5]/SD_PWR/PWM0[3] (io), 157 P1[12]/SD_DAT[3]/PWM0_CAP0 (io), 158 P0[9]/I2S_TX_SDA/SSP1_MOSI/T2_MAT3/RTC_EV2 (io), 160 P0[8]/I2S_TX_WS/SSP1_MISO/T2_MAT2/RTC_EV1 (io), 162 P0[7]/I2S_TX_SCK/SSP1_SCK/T2_MAT1/RTC_EV0 (io), 163 P1[11]/SD_DAT[2]/PWM0[6] (io), 164 P0[6]/I2S_RX_SDA/SSP1_SSEL/T2_MAT0/U1_RTS (io), 166 P0[5]/I2S_RX_WS/CAN_TD2/T2_CAP1 (io), 168 P0[4]/I2S_RX_SCK/CAN_RD2/T2_CAP0 (io), 171 P1[6]/SD_DAT[0]/PWM0[4] (io), 177 P1[3]/PWM0[2] (io), 178 P1[17]/I2S_RX_MCLK (io), 180 P1[16]/I2S_TX_MCLK (io), 182 P1[15]/I2C2_SDA (io), 184 P1[14]/T2_CAP0 (io), 185 P1[2]/PWM0[1] (io), 186 P1[10]/T3_CAP0 (io), 188 P1[9]/T3_MAT0 (io), 190 P1[8]/T3_MAT1/SSP2_SSEL (io), 192 P1[4]/T3_MAT2/SSP2_MISO (io), 194 P1[1]/T3_MAT3/SSP2_MOSI (io), 196 P1[0]/T3_CAP1/SSP2_SCK (io), 202 P0[2]/U0_TXD/U3_TXD (io), 204 P0[3]/U0_RXD/U3_RXD (io)
part B pins: 1 P3[12]/EMC_D[12] (io), 3 P3[3]/EMC_D[3] (io), 5 P3[28]/EMC_D[28]/PWM1[5]/T1_CAP1 (io), 7 P3[13]/EMC_D[13] (io), 11 P3[29]/EMC_D[29]/PWM1[6]/T1_MAT0 (io), 13 P3[4]/EMC_D[4] (io), 17 P3[5]/EMC_D[5] (io), 19 P3[30]/EMC_D[30]/U1_RTS/T1_MAT1 (io), 21 P3[14]/EMC_D[14] (io), 23 P3[6]/EMC_D[6] (io), 25 P3[31]/EMC_D[31]/T1_MAT2 (io), 27 P3[7]/EMC_D[7] (io), 28 P3[15]/EMC_D[15] (io), 31 P2[30]/EMC_DQM2/I2C2_SDA/T3_MAT2 (io), 39 P2[31]/EMC_DQM3/I2C2_SCL/T3_MAT3 (io), 43 P2[29]/EMC_DQM1 (io), 47 P2[27]/EMC_CKE3/SSP0_MOSI/T3_MAT1 (io), 49 P2[28]/EMC_DQM0 (io), 53 P2[24]/EMC_CKE0 (io), 54 P2[25]/EMC_CKE1 (io), 55 P3[26]/EMC_D[26]/PWM1[3]/T0_MAT1/STCLK (io), 56 P3[25]/EMC_D[25]/PWM1[2]/T0_MAT0 (io), 57 P2[26]/EMC_CKE2/SSP0_MISO/T3_MAT0 (io), 58 P3[24]/EMC_D[24]/PWM1[1]/T0_CAP1 (io), 59 P2[18]/EMC_CLK[0] (io), 64 P2[23]/~{EMC_DYCS3}/SSP0_SSEL/T3_CAP1 (io), 65 P3[23]/EMC_D[23]/PWM1_CAP0/T0_CAP0 (io), 67 P2[19]/EMC_CLK[1] (io), 73 P2[20]/~{EMC_DYCS0} (io), 81 P2[21]/~{EMC_DYCS1} (io), 85 P2[22]/~{EMC_DYCS2}/SSP0_SCK/T3_CAP0 (io), 87 P2[16]/~{EMC_CAS} (io), 91 P2[14]/~{EMC_CS2}/I2C1_SDA/T2_CAP0 (io), 95 P2[17]/~{EMC_RAS} (io), 99 P2[15]/~{EMC_CS3}/I2C1_SCL/T2_CAP1 (io), 102 P2[13]/~{EINT3}/SD_DAT[3]/I2S_TX_SDA (io), 106 P2[12]/~{EINT2}/SD_DAT[2]/I2S_TX_WS (io), 108 P2[11]/~{EINT1}/SD_DAT[1]/I2S_TX_SCK (io), 110 P2[10]/~{EINT0}/NMI (io), 132 P2[9]/USB_CONNECT1/U2_RXD/U4_RXD (io), 134 P2[8]/CAN_TD2/U2_TXD/U1_CTS (io), 136 P2[7]/CAN_RD2/U1_RTS (io), 137 P3[16]/EMC_D[16]/PWM0[1]/U1_TXD (io), 138 P2[6]/PWM1_CAP0/U1_RI/T2_CAP0/U2_OE/TRACECLK (io), 140 P2[5]/PWM1[6]/U1_DTR/T2_MAT0/TRACEDATA[0] (io), 142 P2[4]/PWM1[5]/U1_DSR/T2_MAT1/TRACEDATA[1] (io), 143 P3[17]/EMC_D[17]/PWM0[2]/U1_RXD (io), 144 P2[3]/PWM1[4]/U1_DCD/T2_MAT2/TRACEDATA[2] (io), 150 P2[2]/PWM1[3]/U1_CTS/T2_MAT3/TRACEDATA[3] (io), 151 P3[18]/EMC_D[18]/PWM0[3]/U1_CTS (io), 152 P2[1]/PWM1[2]/U1_RXD (io), 154 P2[0]/PWM1[1]/U1_TXD (io), 161 P3[19]/EMC_D[19]/PWM0[4]/U1_DCD (io), 167 P3[20]/EMC_D[20]/PWM0[5]/U1_DSR (io), 175 P3[21]/EMC_D[21]/PWM0[6]/U1_DTR (io), 191 P3[8]/EMC_D[8] (io), 195 P3[22]/EMC_D[22]/PWM0_CAP0/U1_RI (io), 197 P3[0]/EMC_D[0] (io), 199 P3[9]/EMC_D[9] (io), 201 P3[1]/EMC_D[1] (io), 203 P3[27]/EMC_D[27]/PWM1[4]/T1_CAP0 (io), 205 P3[10]/EMC_D[10] (io), 207 P3[2]/EMC_D[2] (io), 208 P3[11]/EMC_D[11] (io)
part C pins: 9 P5[0]/EMC_A[24]/SSP2_MOSI/T2_MAT2 (io), 30 P5[1]/EMC_A[25]/SSP2_MISO/T2_MAT3 (io), 75 P4[0]/EMC_A[0] (io), 79 P4[1]/EMC_A[1] (io), 83 P4[2]/EMC_A[2] (io), 97 P4[3]/EMC_A[3] (io), 101 P4[16]/EMC_A[16] (io), 103 P4[4]/EMC_A[4] (io), 104 P4[17]/EMC_A[17] (io), 105 P4[18]/EMC_A[18] (io), 107 P4[5]/EMC_A[5] (io), 109 P4[20]/EMC_A[20]/I2C2_SDA/SSP1_SCK (io), 111 P4[19]/EMC_A[19] (io), 113 P4[6]/EMC_A[6] (io), 115 P4[21]/EMC_A[21]/I2C2_SCL/SSP1_SSEL (io), 117 P5[2]/T3_MAT2/I2C0_SDA (io), 119 P4[26]/~{EMC_BLS0} (io), 121 P4[7]/EMC_A[7] (io), 123 P4[22]/EMC_A[22]/U2_TXD/SSP1_MISO (io), 127 P4[8]/EMC_A[8] (io), 129 P4[23]/EMC_A[23]/U2_RXD/SSP1_MOSI (io), 131 P4[9]/EMC_A[9] (io), 135 P4[10]/EMC_A[10] (io), 139 P4[27]/~{EMC_BLS1} (io), 141 P5[3]/U4_RXD/I2C0_SCL (io), 145 P4[11]/EMC_A[11] (io), 149 P4[12]/EMC_A[12] (io), 155 P4[13]/EMC_A[13] (io), 159 P4[14]/EMC_A[14] (io), 170 P4[28]/~{EMC_BLS2}/U3_TXD/T2_MAT0 (io), 173 P4[15]/EMC_A[15] (io), 176 P4[29]/~{EMC_BLS3}/U3_RXD/T2_MAT1/I2C2_SCL (io), 179 P4[25]/~{EMC_WE} (io), 183 P4[24]/~{EMC_OE} (io), 187 P4[30]/~{EMC_CS0} (io), 193 P4[31]/~{EMC_CS1} (io), 206 P5[4]/U0_OE (io)
part D pins: 2 JTAG_TDO (SWO) (out), 4 JTAG_TDI (in), 6 JTAG_TMS (SWDIO) (io), 8 JTAG_~{TRST} (in), 10 JTAG_TCK (SWDCLK) (in), 29 ~{RSTOUT} (out), 34 RTCX1 (in), 35 ~{RESET} (in), 36 RTCX2 (out), 37 RTC_ALARM (out), 44 XTAL1, 46 XTAL2, 52 USB_D-2 (io)
part E pins: 15 VDD(3V3) (power), 20 VDDA (power), 22 VSSA (power), 24 VREFP (power), 26 VDD(REG)(3V3) (power), 32 VSSREG (power), 33 VSS (power), 38 VBAT (power), 60 VDD(3V3) (power), 63 VSS (power), 71 VDD(3V3) (power), 77 VSS (power), 84 VSSREG (power), 86 VDD(REG)(3V3) (power), 89 VDD(3V3) (power), 93 VSS (power), 112 VDD(3V3) (power), 114 VSS (power), 125 VDD(3V3) (power), 133 VSS (power), 146 VDD(3V3) (power), 148 VSS (power), 165 VDD(3V3) (power), 169 VSS (power), 172 VSSREG (power), 174 VDD(REG)(3V3) (power), 181 VDD(3V3) (power), 189 VSS (power), 198 VDD(3V3) (power), 200 VSS (power)

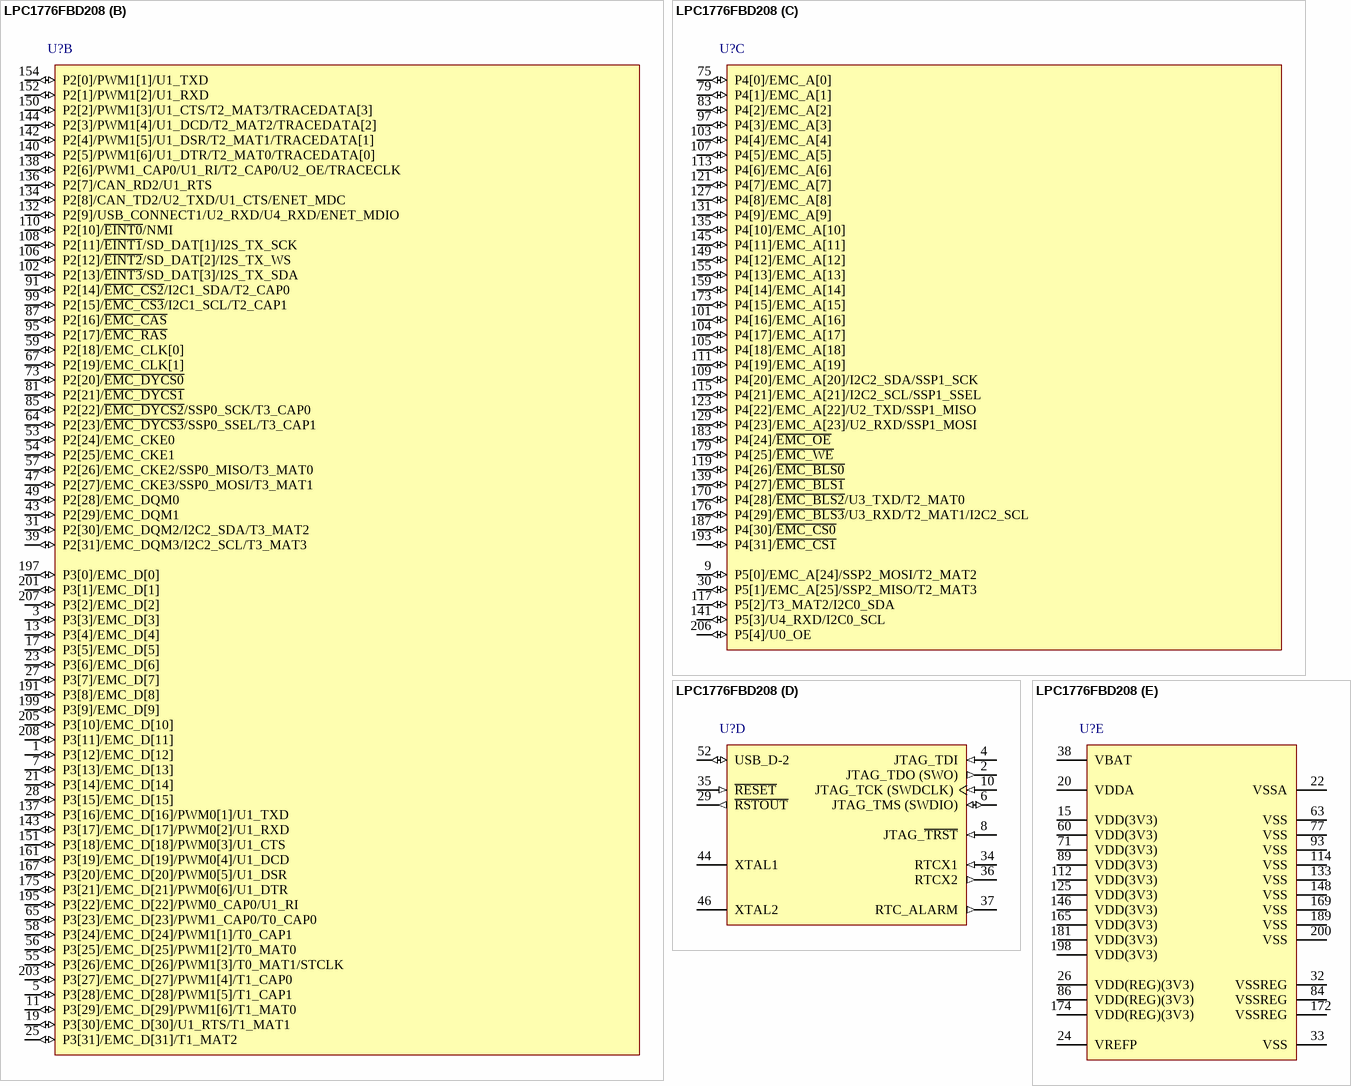
[diagram p11: symbol LPC1776FBD208]

## LPC1776FBD208
designator U?
32-bit ARM Cortex-M3 MCU, 256 kB Flash, 80 kB SRAM, Ethernet, USB 2.0 Device/Host/OTG, CAN, 12-Bit ADC, 208-Pin LQFP; PartNumber: LPC1776FBD208; fmax: 120 MHz; SRAM: 80 kB; Flash: 256 kB; EEPROM: 4 kB; GPIOs: 165; USB: 1; CAN: 2; UART: 5; I2C: 3; PWM: 6; PLL: Y; ADC channels: 8; Timers: 4; VDD (min): 2.4 V; VDD (typ): 3.3 V; VDD (max): 3.6 V; Code_IEC: 136E30; DatasheetVersion: Rev. 3, Dec-2011; PackageVersion: Feb-2003; PackageReference: SOT459-1; PackageDescription: LQFP208; Plastic Low Profile Quad Flat Package; 208 Leads; Body 28 x 28 x 1.4 mm; SSP: 3; Code_JEDEC: MS-026; ComponentLink1Description: Manufacturer URL; ComponentLink1URL: http://www.nxp.com/; ComponentLink2Description: Datasheet; ComponentLink2URL: http://www.nxp.com/documents/data_sheet/LPC178X_7X.pdf
footprint SOT459-1_V (Thin QFP, 208-Leads, Body 28x28mm, Pitch 0.5mm, NXP Recommended)
part A pins: 12 P0[26]/ADC0_IN[3]/DAC_OUT/U3_RXD (io), 14 P0[25]/ADC0_IN[2]/I2S_RX_SDA/U3_TXD (io), 16 P0[24]/ADC0_IN[1]/I2S_RX_WS/T3_CAP1 (io), 18 P0[23]/ADC0_IN[0]/I2S_RX_SCK/T3_CAP0 (io), 40 P1[31]/~{USB_OVRCR2}/SSP1_SCK/ADC0_IN[5]/I2C0_SCL (io), 41 P0[12]/USB_PPWR2/SSP1_MISO/ADC0_IN[6] (io), 42 P1[30]/USB_PWRD2/USB_VBUS/ADC0_IN[4]/I2C0_SDA/U3_OE (io), 45 P0[13]/USB_UP_LED2/SSP1_MOSI/ADC0_IN[7] (io), 48 P0[28]/I2C0_SCL/USB_SCL1 (io), 50 P0[27]/I2C0_SDA/USB_SDA1 (io), 51 P0[31]/USB_D+2 (io), 61 P0[29]/USB_D+1/~{EINT0} (io), 62 P0[30]/USB_D-1/~{EINT1} (io), 66 P1[18]/USB_UP_LED1/PWM1[1]/T1_CAP0/SSP1_MISO (io), 68 P1[19]/~{USB_TX_E1}/~{USB_PPWR1}/T1_CAP1/MC_0A/SSP1_SCK/U2_OE (io), 69 P0[14]/USB_HSTEN2/SSP1_SSEL/USB_CONNECT2 (io), 70 P1[20]/USB_TX_DP1/PWM1[2]/QEI_PHA/MC_FB0/SSP0_SCK (io), 72 P1[21]/USB_TX_DM1/PWM1[3]/SSP0_SSEL/~{MC_ABORT} (io), 74 P1[22]/USB_RCV1/USB_PWRD1/T1_MAT0/MC_0B/SSP1_MOSI (io), 76 P1[23]/USB_RX_DP1/PWM1[4]/QEI_PHB/MC_FB1/SSP0_MISO (io), 78 P1[24]/USB_RX_DM1/PWM1[5]/QEI_IDX/MC_FB2/SSP0_MOSI (io), 80 P1[25]/~{USB_LS1}/~{USB_HSTEN1}/T1_MAT1/MC_1A/CLKOUT (io), 82 P1[26]/USB_SSPND1/PWM1[6]/T0_CAP0/MC_1B/SSP1_SSEL (io), 88 P1[27]/~{USB_INT1}/~{USB_OVRCR1}/T0_CAP1/CLKOUT (io), 90 P1[28]/USB_SCL1/PWM1_CAP0/T0_MAT0/MC_2A/SSP0_SSEL (io), 92 P1[29]/USB_SDA1/PWM1_CAP1/T0_MAT1/MC_2B/U4_TXD (io), 94 P0[0]/CAN_RD1/U3_TXD/I2C1_SDA/U0_TXD (io), 96 P0[1]/CAN_TD1/U3_RXD/I2C1_SCL/U0_RXD (io), 98 P0[10]/U2_TXD/I2C2_SDA/T3_MAT0 (io), 100 P0[11]/U2_RXD/I2C2_SCL/T3_MAT1 (io), 116 P0[22]/U1_RTS/SD_DAT[0]/U4_TXD/CAN_TD1 (io), 118 P0[21]/U1_RI/SD_PWR/U4_OE/CAN_RD1/U4_SCLK (io), 120 P0[20]/U1_DTR/UART1/SD_CMD/I2C1_SCL (io), 122 P0[19]/U1_DSR/SD_CLK/I2C1_SDA (io), 124 P0[18]/U1_DCD/SSP0_MOSI (io), 126 P0[17]/U1_CTS/SSP0_MISO (io), 128 P0[15]/U1_TXD/SSP0_SCK (io), 130 P0[16]/U1_RXD/SSP0_SSEL (io), 147 P1[13]/ENET_RX_DV (io), 153 P1[7]/ENET_COL/SD_DAT[1]/PWM0[5] (io), 156 P1[5]/ENET_TX_ER/SD_PWR/PWM0[3] (io), 157 P1[12]/ENET_RXD3/SD_DAT[3]/PWM0_CAP0 (io), 158 P0[9]/I2S_TX_SDA/SSP1_MOSI/T2_MAT3/RTC_EV2 (io), 160 P0[8]/I2S_TX_WS/SSP1_MISO/T2_MAT2/RTC_EV1 (io), 162 P0[7]/I2S_TX_SCK/SSP1_SCK/T2_MAT1/RTC_EV0 (io), 163 P1[11]/ENET_RXD2/SD_DAT[2]/PWM0[6] (io), 164 P0[6]/I2S_RX_SDA/SSP1_SSEL/T2_MAT0/U1_RTS (io), 166 P0[5]/I2S_RX_WS/CAN_TD2/T2_CAP1 (io), 168 P0[4]/I2S_RX_SCK/CAN_RD2/T2_CAP0 (io), 171 P1[6]/ENET_TX_CLK/SD_DAT[0]/PWM0[4] (io), 177 P1[3]/ENET_TXD3/SD_CMD/PWM0[2] (io), 178 P1[17]/ENET_MDIO/I2S_RX_MCLK (io), 180 P1[16]/ENET_MDC/I2S_TX_MCLK (io), 182 P1[15]/ENET_RX_CLK (ENET_REF_CLK)/I2C2_SDA (io), 184 P1[14]/ENET_RX_ER/T2_CAP0 (io), 185 P1[2]/ENET_TXD2/SD_CLK/PWM0[1] (io), 186 P1[10]/ENET_RXD1/T3_CAP0 (io), 188 P1[9]/ENET_RXD0/T3_MAT0 (io), 190 P1[8]/ENET_CRS (ENET_CRS_DV)/T3_MAT1/SSP2_SSEL (io), 192 P1[4]/ENET_TX_EN/T3_MAT2/SSP2_MISO (io), 194 P1[1]/ENET_TXD1/T3_MAT3/SSP2_MOSI (io), 196 P1[0]/ENET_TXD0/T3_CAP1/SSP2_SCK (io), 202 P0[2]/U0_TXD/U3_TXD (io), 204 P0[3]/U0_RXD/U3_RXD (io)
part B pins: 1 P3[12]/EMC_D[12] (io), 3 P3[3]/EMC_D[3] (io), 5 P3[28]/EMC_D[28]/PWM1[5]/T1_CAP1 (io), 7 P3[13]/EMC_D[13] (io), 11 P3[29]/EMC_D[29]/PWM1[6]/T1_MAT0 (io), 13 P3[4]/EMC_D[4] (io), 17 P3[5]/EMC_D[5] (io), 19 P3[30]/EMC_D[30]/U1_RTS/T1_MAT1 (io), 21 P3[14]/EMC_D[14] (io), 23 P3[6]/EMC_D[6] (io), 25 P3[31]/EMC_D[31]/T1_MAT2 (io), 27 P3[7]/EMC_D[7] (io), 28 P3[15]/EMC_D[15] (io), 31 P2[30]/EMC_DQM2/I2C2_SDA/T3_MAT2 (io), 39 P2[31]/EMC_DQM3/I2C2_SCL/T3_MAT3 (io), 43 P2[29]/EMC_DQM1 (io), 47 P2[27]/EMC_CKE3/SSP0_MOSI/T3_MAT1 (io), 49 P2[28]/EMC_DQM0 (io), 53 P2[24]/EMC_CKE0 (io), 54 P2[25]/EMC_CKE1 (io), 55 P3[26]/EMC_D[26]/PWM1[3]/T0_MAT1/STCLK (io), 56 P3[25]/EMC_D[25]/PWM1[2]/T0_MAT0 (io), 57 P2[26]/EMC_CKE2/SSP0_MISO/T3_MAT0 (io), 58 P3[24]/EMC_D[24]/PWM1[1]/T0_CAP1 (io), 59 P2[18]/EMC_CLK[0] (io), 64 P2[23]/~{EMC_DYCS3}/SSP0_SSEL/T3_CAP1 (io), 65 P3[23]/EMC_D[23]/PWM1_CAP0/T0_CAP0 (io), 67 P2[19]/EMC_CLK[1] (io), 73 P2[20]/~{EMC_DYCS0} (io), 81 P2[21]/~{EMC_DYCS1} (io), 85 P2[22]/~{EMC_DYCS2}/SSP0_SCK/T3_CAP0 (io), 87 P2[16]/~{EMC_CAS} (io), 91 P2[14]/~{EMC_CS2}/I2C1_SDA/T2_CAP0 (io), 95 P2[17]/~{EMC_RAS} (io), 99 P2[15]/~{EMC_CS3}/I2C1_SCL/T2_CAP1 (io), 102 P2[13]/~{EINT3}/SD_DAT[3]/I2S_TX_SDA (io), 106 P2[12]/~{EINT2}/SD_DAT[2]/I2S_TX_WS (io), 108 P2[11]/~{EINT1}/SD_DAT[1]/I2S_TX_SCK (io), 110 P2[10]/~{EINT0}/NMI (io), 132 P2[9]/USB_CONNECT1/U2_RXD/U4_RXD/ENET_MDIO (io), 134 P2[8]/CAN_TD2/U2_TXD/U1_CTS/ENET_MDC (io), 136 P2[7]/CAN_RD2/U1_RTS (io), 137 P3[16]/EMC_D[16]/PWM0[1]/U1_TXD (io), 138 P2[6]/PWM1_CAP0/U1_RI/T2_CAP0/U2_OE/TRACECLK (io), 140 P2[5]/PWM1[6]/U1_DTR/T2_MAT0/TRACEDATA[0] (io), 142 P2[4]/PWM1[5]/U1_DSR/T2_MAT1/TRACEDATA[1] (io), 143 P3[17]/EMC_D[17]/PWM0[2]/U1_RXD (io), 144 P2[3]/PWM1[4]/U1_DCD/T2_MAT2/TRACEDATA[2] (io), 150 P2[2]/PWM1[3]/U1_CTS/T2_MAT3/TRACEDATA[3] (io), 151 P3[18]/EMC_D[18]/PWM0[3]/U1_CTS (io), 152 P2[1]/PWM1[2]/U1_RXD (io), 154 P2[0]/PWM1[1]/U1_TXD (io), 161 P3[19]/EMC_D[19]/PWM0[4]/U1_DCD (io), 167 P3[20]/EMC_D[20]/PWM0[5]/U1_DSR (io), 175 P3[21]/EMC_D[21]/PWM0[6]/U1_DTR (io), 191 P3[8]/EMC_D[8] (io), 195 P3[22]/EMC_D[22]/PWM0_CAP0/U1_RI (io), 197 P3[0]/EMC_D[0] (io), 199 P3[9]/EMC_D[9] (io), 201 P3[1]/EMC_D[1] (io), 203 P3[27]/EMC_D[27]/PWM1[4]/T1_CAP0 (io), 205 P3[10]/EMC_D[10] (io), 207 P3[2]/EMC_D[2] (io), 208 P3[11]/EMC_D[11] (io)
part C pins: 9 P5[0]/EMC_A[24]/SSP2_MOSI/T2_MAT2 (io), 30 P5[1]/EMC_A[25]/SSP2_MISO/T2_MAT3 (io), 75 P4[0]/EMC_A[0] (io), 79 P4[1]/EMC_A[1] (io), 83 P4[2]/EMC_A[2] (io), 97 P4[3]/EMC_A[3] (io), 101 P4[16]/EMC_A[16] (io), 103 P4[4]/EMC_A[4] (io), 104 P4[17]/EMC_A[17] (io), 105 P4[18]/EMC_A[18] (io), 107 P4[5]/EMC_A[5] (io), 109 P4[20]/EMC_A[20]/I2C2_SDA/SSP1_SCK (io), 111 P4[19]/EMC_A[19] (io), 113 P4[6]/EMC_A[6] (io), 115 P4[21]/EMC_A[21]/I2C2_SCL/SSP1_SSEL (io), 117 P5[2]/T3_MAT2/I2C0_SDA (io), 119 P4[26]/~{EMC_BLS0} (io), 121 P4[7]/EMC_A[7] (io), 123 P4[22]/EMC_A[22]/U2_TXD/SSP1_MISO (io), 127 P4[8]/EMC_A[8] (io), 129 P4[23]/EMC_A[23]/U2_RXD/SSP1_MOSI (io), 131 P4[9]/EMC_A[9] (io), 135 P4[10]/EMC_A[10] (io), 139 P4[27]/~{EMC_BLS1} (io), 141 P5[3]/U4_RXD/I2C0_SCL (io), 145 P4[11]/EMC_A[11] (io), 149 P4[12]/EMC_A[12] (io), 155 P4[13]/EMC_A[13] (io), 159 P4[14]/EMC_A[14] (io), 170 P4[28]/~{EMC_BLS2}/U3_TXD/T2_MAT0 (io), 173 P4[15]/EMC_A[15] (io), 176 P4[29]/~{EMC_BLS3}/U3_RXD/T2_MAT1/I2C2_SCL (io), 179 P4[25]/~{EMC_WE} (io), 183 P4[24]/~{EMC_OE} (io), 187 P4[30]/~{EMC_CS0} (io), 193 P4[31]/~{EMC_CS1} (io), 206 P5[4]/U0_OE (io)
part D pins: 2 JTAG_TDO (SWO) (out), 4 JTAG_TDI (in), 6 JTAG_TMS (SWDIO) (io), 8 JTAG_~{TRST} (in), 10 JTAG_TCK (SWDCLK) (in), 29 ~{RSTOUT} (out), 34 RTCX1 (in), 35 ~{RESET} (in), 36 RTCX2 (out), 37 RTC_ALARM (out), 44 XTAL1, 46 XTAL2, 52 USB_D-2 (io)
part E pins: 15 VDD(3V3) (power), 20 VDDA (power), 22 VSSA (power), 24 VREFP (power), 26 VDD(REG)(3V3) (power), 32 VSSREG (power), 33 VSS (power), 38 VBAT (power), 60 VDD(3V3) (power), 63 VSS (power), 71 VDD(3V3) (power), 77 VSS (power), 84 VSSREG (power), 86 VDD(REG)(3V3) (power), 89 VDD(3V3) (power), 93 VSS (power), 112 VDD(3V3) (power), 114 VSS (power), 125 VDD(3V3) (power), 133 VSS (power), 146 VDD(3V3) (power), 148 VSS (power), 165 VDD(3V3) (power), 169 VSS (power), 172 VSSREG (power), 174 VDD(REG)(3V3) (power), 181 VDD(3V3) (power), 189 VSS (power), 198 VDD(3V3) (power), 200 VSS (power)

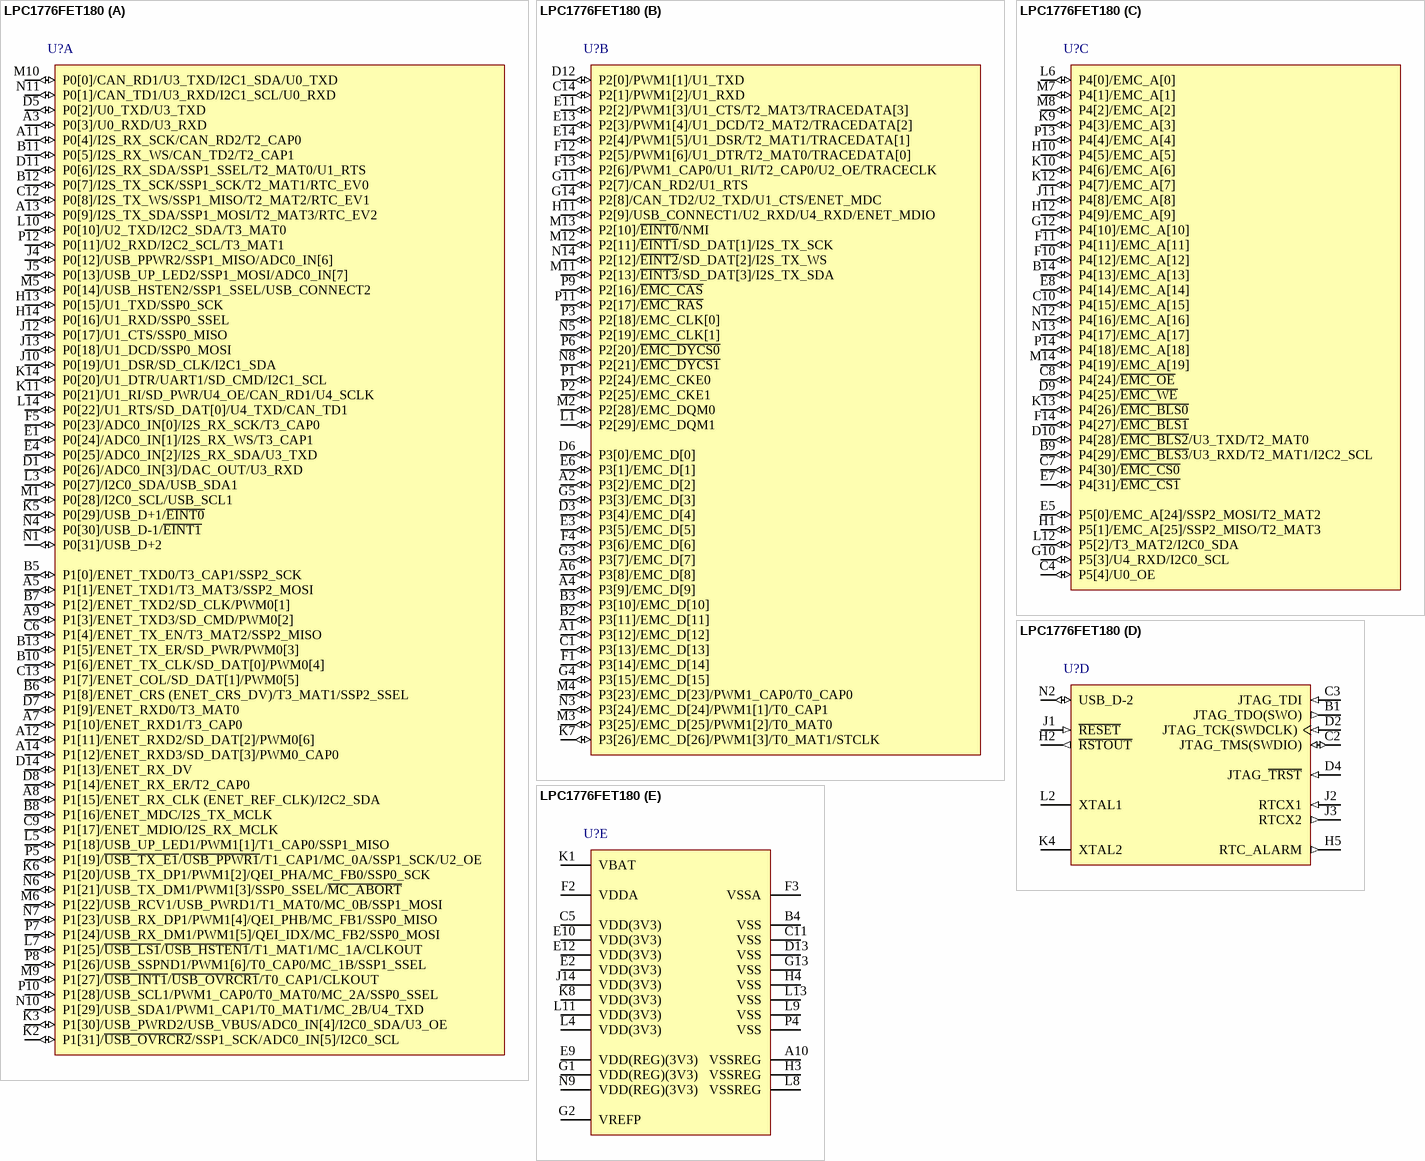
[diagram p12: symbol LPC1776FET180]

## LPC1776FET180
designator U?
32-bit ARM Cortex-M3 MCU, 256 kB Flash, 80 kB SRAM, Ethernet, USB 2.0 Device/Host/OTG, CAN, 12-Bit ADC, 180-Pin TFBGA; PartNumber: LPC1776FET180; fmax: 120 MHz; SRAM: 80 kB; Flash: 256 kB; EEPROM: 4 kB; GPIOs: 141; USB: 1; CAN: 2; UART: 5; I2C: 3; PWM: 6; PLL: Y; ADC channels: 8; Timers: 4; VDD (min): 2.4 V; VDD (typ): 3.3 V; VDD (max): 3.6 V; DatasheetVersion: Rev. 3, Dec-2011; PackageVersion: Apr-2010; PackageReference: SOT570-3; PackageDescription: TFBGA180: Thin Fine-Pitch Ball Grid Array Package; 180 Balls; Body 12 x 12 x 0.71 mm; SSP: 3; ComponentLink1Description: Manufacturer URL; ComponentLink1URL: http://www.nxp.com/; ComponentLink2Description: Datasheet; ComponentLink2URL: http://www.nxp.com/documents/data_sheet/LPC178X_7X.pdf
footprint SOT570-3 (BGA, 180-Leads, Body 12x12mm, Pitch 0.8mm)
part A pins: A3 P0[3]/U0_RXD/U3_RXD (io), A5 P1[1]/ENET_TXD1/T3_MAT3/SSP2_MOSI (io), A7 P1[10]/ENET_RXD1/T3_CAP0 (io), A8 P1[15]/ENET_RX_CLK (ENET_REF_CLK)/I2C2_SDA (io), A9 P1[3]/ENET_TXD3/SD_CMD/PWM0[2] (io), A11 P0[4]/I2S_RX_SCK/CAN_RD2/T2_CAP0 (io), A12 P1[11]/ENET_RXD2/SD_DAT[2]/PWM0[6] (io), A13 P0[9]/I2S_TX_SDA/SSP1_MOSI/T2_MAT3/RTC_EV2 (io), A14 P1[12]/ENET_RXD3/SD_DAT[3]/PWM0_CAP0 (io), B5 P1[0]/ENET_TXD0/T3_CAP1/SSP2_SCK (io), B6 P1[8]/ENET_CRS (ENET_CRS_DV)/T3_MAT1/SSP2_SSEL (io), B7 P1[2]/ENET_TXD2/SD_CLK/PWM0[1] (io), B8 P1[16]/ENET_MDC/I2S_TX_MCLK (io), B10 P1[6]/ENET_TX_CLK/SD_DAT[0]/PWM0[4] (io), B11 P0[5]/I2S_RX_WS/CAN_TD2/T2_CAP1 (io), B12 P0[7]/I2S_TX_SCK/SSP1_SCK/T2_MAT1/RTC_EV0 (io), B13 P1[5]/ENET_TX_ER/SD_PWR/PWM0[3] (io), C6 P1[4]/ENET_TX_EN/T3_MAT2/SSP2_MISO (io), C9 P1[17]/ENET_MDIO/I2S_RX_MCLK (io), C12 P0[8]/I2S_TX_WS/SSP1_MISO/T2_MAT2/RTC_EV1 (io), C13 P1[7]/ENET_COL/SD_DAT[1]/PWM0[5] (io), D1 P0[26]/ADC0_IN[3]/DAC_OUT/U3_RXD (io), D5 P0[2]/U0_TXD/U3_TXD (io), D7 P1[9]/ENET_RXD0/T3_MAT0 (io), D8 P1[14]/ENET_RX_ER/T2_CAP0 (io), D11 P0[6]/I2S_RX_SDA/SSP1_SSEL/T2_MAT0/U1_RTS (io), D14 P1[13]/ENET_RX_DV (io), E1 P0[24]/ADC0_IN[1]/I2S_RX_WS/T3_CAP1 (io), E4 P0[25]/ADC0_IN[2]/I2S_RX_SDA/U3_TXD (io), F5 P0[23]/ADC0_IN[0]/I2S_RX_SCK/T3_CAP0 (io), H13 P0[15]/U1_TXD/SSP0_SCK (io), H14 P0[16]/U1_RXD/SSP0_SSEL (io), J4 P0[12]/USB_PPWR2/SSP1_MISO/ADC0_IN[6] (io), J5 P0[13]/USB_UP_LED2/SSP1_MOSI/ADC0_IN[7] (io), J10 P0[19]/U1_DSR/SD_CLK/I2C1_SDA (io), J12 P0[17]/U1_CTS/SSP0_MISO (io), J13 P0[18]/U1_DCD/SSP0_MOSI (io), K2 P1[31]/~{USB_OVRCR2}/SSP1_SCK/ADC0_IN[5]/I2C0_SCL (io), K3 P1[30]/USB_PWRD2/USB_VBUS/ADC0_IN[4]/I2C0_SDA/U3_OE (io), K5 P0[29]/USB_D+1/~{EINT0} (io), K6 P1[20]/USB_TX_DP1/PWM1[2]/QEI_PHA/MC_FB0/SSP0_SCK (io), K11 P0[21]/U1_RI/SD_PWR/U4_OE/CAN_RD1/U4_SCLK (io), K14 P0[20]/U1_DTR/UART1/SD_CMD/I2C1_SCL (io), L3 P0[27]/I2C0_SDA/USB_SDA1 (io), L5 P1[18]/USB_UP_LED1/PWM1[1]/T1_CAP0/SSP1_MISO (io), L7 P1[25]/~{USB_LS1}/~{USB_HSTEN1}/T1_MAT1/MC_1A/CLKOUT (io), L10 P0[10]/U2_TXD/I2C2_SDA/T3_MAT0 (io), L14 P0[22]/U1_RTS/SD_DAT[0]/U4_TXD/CAN_TD1 (io), M1 P0[28]/I2C0_SCL/USB_SCL1 (io), M5 P0[14]/USB_HSTEN2/SSP1_SSEL/USB_CONNECT2 (io), M6 P1[22]/USB_RCV1/USB_PWRD1/T1_MAT0/MC_0B/SSP1_MOSI (io), M9 P1[27]/~{USB_INT1}/~{USB_OVRCR1}/T0_CAP1/CLKOUT (io), M10 P0[0]/CAN_RD1/U3_TXD/I2C1_SDA/U0_TXD (io), N1 P0[31]/USB_D+2 (io), N4 P0[30]/USB_D-1/~{EINT1} (io), N6 P1[21]/USB_TX_DM1/PWM1[3]/SSP0_SSEL/~{MC_ABORT} (io), N7 P1[23]/USB_RX_DP1/PWM1[4]/QEI_PHB/MC_FB1/SSP0_MISO (io), N10 P1[29]/USB_SDA1/PWM1_CAP1/T0_MAT1/MC_2B/U4_TXD (io), N11 P0[1]/CAN_TD1/U3_RXD/I2C1_SCL/U0_RXD (io), P5 P1[19]/~{USB_TX_E1}/~{USB_PPWR1}/T1_CAP1/MC_0A/SSP1_SCK/U2_OE (io), P7 P1[24]/USB_RX_DM1/PWM1[5]/QEI_IDX/MC_FB2/SSP0_MOSI (io), P8 P1[26]/USB_SSPND1/PWM1[6]/T0_CAP0/MC_1B/SSP1_SSEL (io), P10 P1[28]/USB_SCL1/PWM1_CAP0/T0_MAT0/MC_2A/SSP0_SSEL (io), P12 P0[11]/U2_RXD/I2C2_SCL/T3_MAT1 (io)
part B pins: A1 P3[12]/EMC_D[12] (io), A2 P3[2]/EMC_D[2] (io), A4 P3[9]/EMC_D[9] (io), A6 P3[8]/EMC_D[8] (io), B2 P3[11]/EMC_D[11] (io), B3 P3[10]/EMC_D[10] (io), C1 P3[13]/EMC_D[13] (io), C14 P2[1]/PWM1[2]/U1_RXD (io), D3 P3[4]/EMC_D[4] (io), D6 P3[0]/EMC_D[0] (io), D12 P2[0]/PWM1[1]/U1_TXD (io), E3 P3[5]/EMC_D[5] (io), E6 P3[1]/EMC_D[1] (io), E11 P2[2]/PWM1[3]/U1_CTS/T2_MAT3/TRACEDATA[3] (io), E13 P2[3]/PWM1[4]/U1_DCD/T2_MAT2/TRACEDATA[2] (io), E14 P2[4]/PWM1[5]/U1_DSR/T2_MAT1/TRACEDATA[1] (io), F1 P3[14]/EMC_D[14] (io), F4 P3[6]/EMC_D[6] (io), F12 P2[5]/PWM1[6]/U1_DTR/T2_MAT0/TRACEDATA[0] (io), F13 P2[6]/PWM1_CAP0/U1_RI/T2_CAP0/U2_OE/TRACECLK (io), G3 P3[7]/EMC_D[7] (io), G4 P3[15]/EMC_D[15] (io), G5 P3[3]/EMC_D[3] (io), G11 P2[7]/CAN_RD2/U1_RTS (io), G14 P2[8]/CAN_TD2/U2_TXD/U1_CTS/ENET_MDC (io), H11 P2[9]/USB_CONNECT1/U2_RXD/U4_RXD/ENET_MDIO (io), K7 P3[26]/EMC_D[26]/PWM1[3]/T0_MAT1/STCLK (io), L1 P2[29]/EMC_DQM1 (io), M2 P2[28]/EMC_DQM0 (io), M3 P3[25]/EMC_D[25]/PWM1[2]/T0_MAT0 (io), M4 P3[23]/EMC_D[23]/PWM1_CAP0/T0_CAP0 (io), M11 P2[13]/~{EINT3}/SD_DAT[3]/I2S_TX_SDA (io), M12 P2[11]/~{EINT1}/SD_DAT[1]/I2S_TX_SCK (io), M13 P2[10]/~{EINT0}/NMI (io), N3 P3[24]/EMC_D[24]/PWM1[1]/T0_CAP1 (io), N5 P2[19]/EMC_CLK[1] (io), N8 P2[21]/~{EMC_DYCS1} (io), N14 P2[12]/~{EINT2}/SD_DAT[2]/I2S_TX_WS (io), P1 P2[24]/EMC_CKE0 (io), P2 P2[25]/EMC_CKE1 (io), P3 P2[18]/EMC_CLK[0] (io), P6 P2[20]/~{EMC_DYCS0} (io), P9 P2[16]/~{EMC_CAS} (io), P11 P2[17]/~{EMC_RAS} (io)
part C pins: B9 P4[29]/~{EMC_BLS3}/U3_RXD/T2_MAT1/I2C2_SCL (io), B14 P4[13]/EMC_A[13] (io), C4 P5[4]/U0_OE (io), C7 P4[30]/~{EMC_CS0} (io), C8 P4[24]/~{EMC_OE} (io), C10 P4[15]/EMC_A[15] (io), D9 P4[25]/~{EMC_WE} (io), D10 P4[28]/~{EMC_BLS2}/U3_TXD/T2_MAT0 (io), E5 P5[0]/EMC_A[24]/SSP2_MOSI/T2_MAT2 (io), E7 P4[31]/~{EMC_CS1} (io), E8 P4[14]/EMC_A[14] (io), F10 P4[12]/EMC_A[12] (io), F11 P4[11]/EMC_A[11] (io), F14 P4[27]/~{EMC_BLS1} (io), G10 P5[3]/U4_RXD/I2C0_SCL (io), G12 P4[10]/EMC_A[10] (io), H1 P5[1]/EMC_A[25]/SSP2_MISO/T2_MAT3 (io), H10 P4[5]/EMC_A[5] (io), H12 P4[9]/EMC_A[9] (io), J11 P4[8]/EMC_A[8] (io), K9 P4[3]/EMC_A[3] (io), K10 P4[6]/EMC_A[6] (io), K12 P4[7]/EMC_A[7] (io), K13 P4[26]/~{EMC_BLS0} (io), L6 P4[0]/EMC_A[0] (io), L12 P5[2]/T3_MAT2/I2C0_SDA (io), M7 P4[1]/EMC_A[1] (io), M8 P4[2]/EMC_A[2] (io), M14 P4[19]/EMC_A[19] (io), N12 P4[16]/EMC_A[16] (io), N13 P4[17]/EMC_A[17] (io), P13 P4[4]/EMC_A[4] (io), P14 P4[18]/EMC_A[18] (io)
part D pins: B1 JTAG_TDO(SWO) (out), C2 JTAG_TMS(SWDIO) (io), C3 JTAG_TDI (in), D2 JTAG_TCK(SWDCLK) (in), D4 JTAG_~{TRST} (in), H2 ~{RSTOUT} (out), H5 RTC_ALARM (out), J1 ~{RESET} (in), J2 RTCX1 (in), J3 RTCX2 (out), K4 XTAL2, L2 XTAL1, N2 USB_D-2 (io)
part E pins: A10 VSSREG (power), B4 VSS (power), C5 VDD(3V3) (power), C11 VSS (power), D13 VSS (power), E2 VDD(3V3) (power), E9 VDD(REG)(3V3) (power), E10 VDD(3V3) (power), E12 VDD(3V3) (power), F2 VDDA (power), F3 VSSA (power), G1 VDD(REG)(3V3) (power), G2 VREFP (power), G13 VSS (power), H3 VSSREG (power), H4 VSS (power), J14 VDD(3V3) (power), K1 VBAT (power), K8 VDD(3V3) (power), L4 VDD(3V3) (power), L8 VSSREG (power), L9 VSS (power), L11 VDD(3V3) (power), L13 VSS (power), N9 VDD(REG)(3V3) (power), P4 VSS (power)

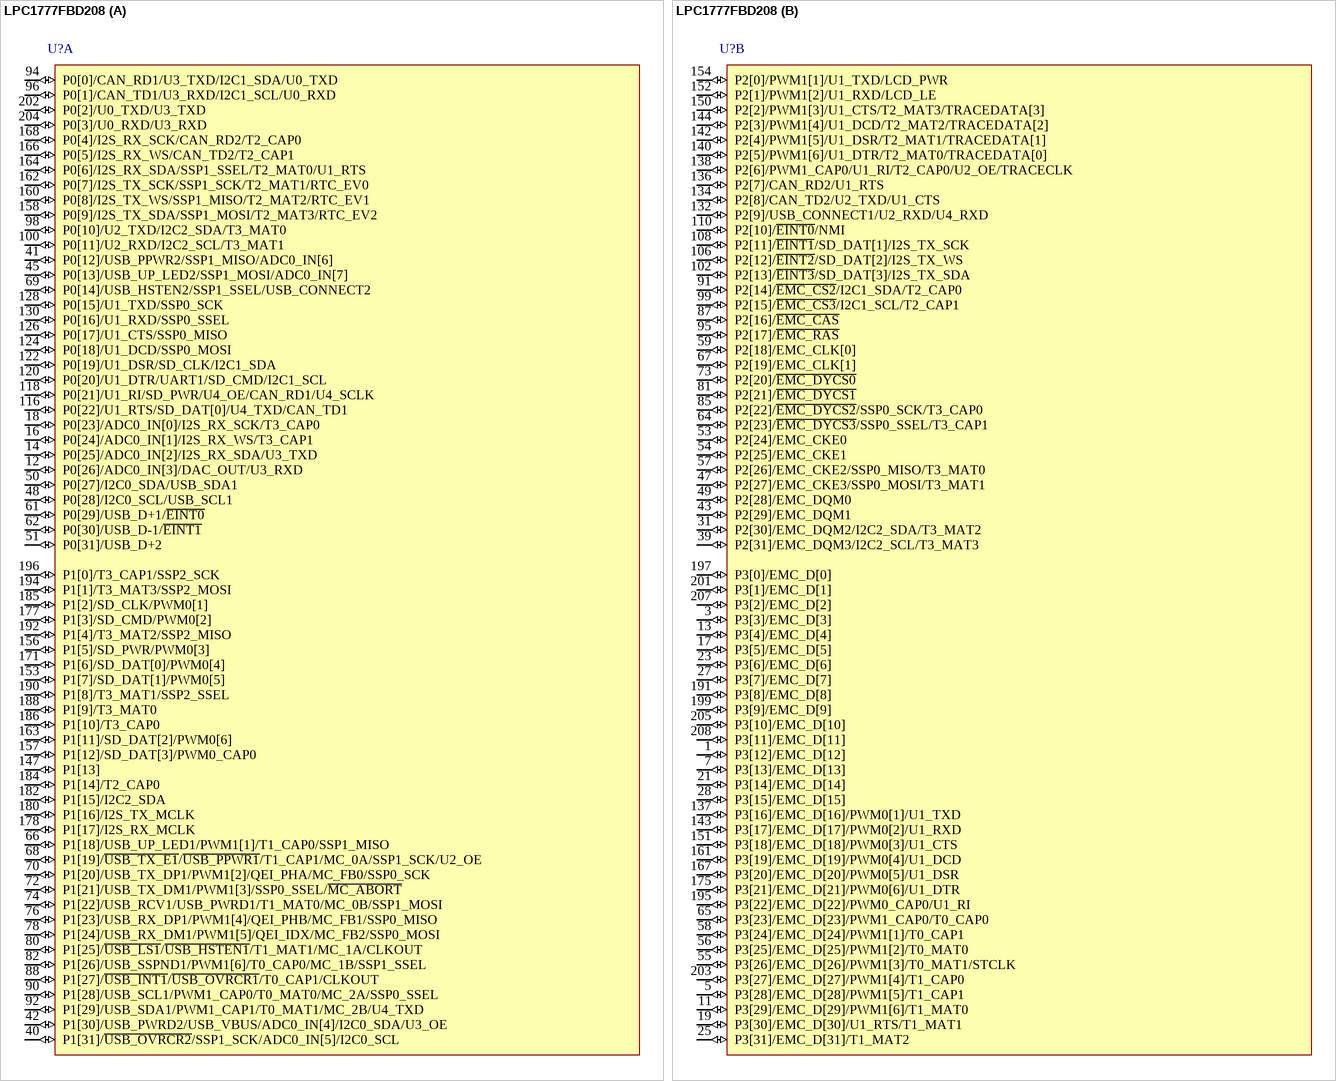
[diagram p13: symbol LPC1777FBD208]

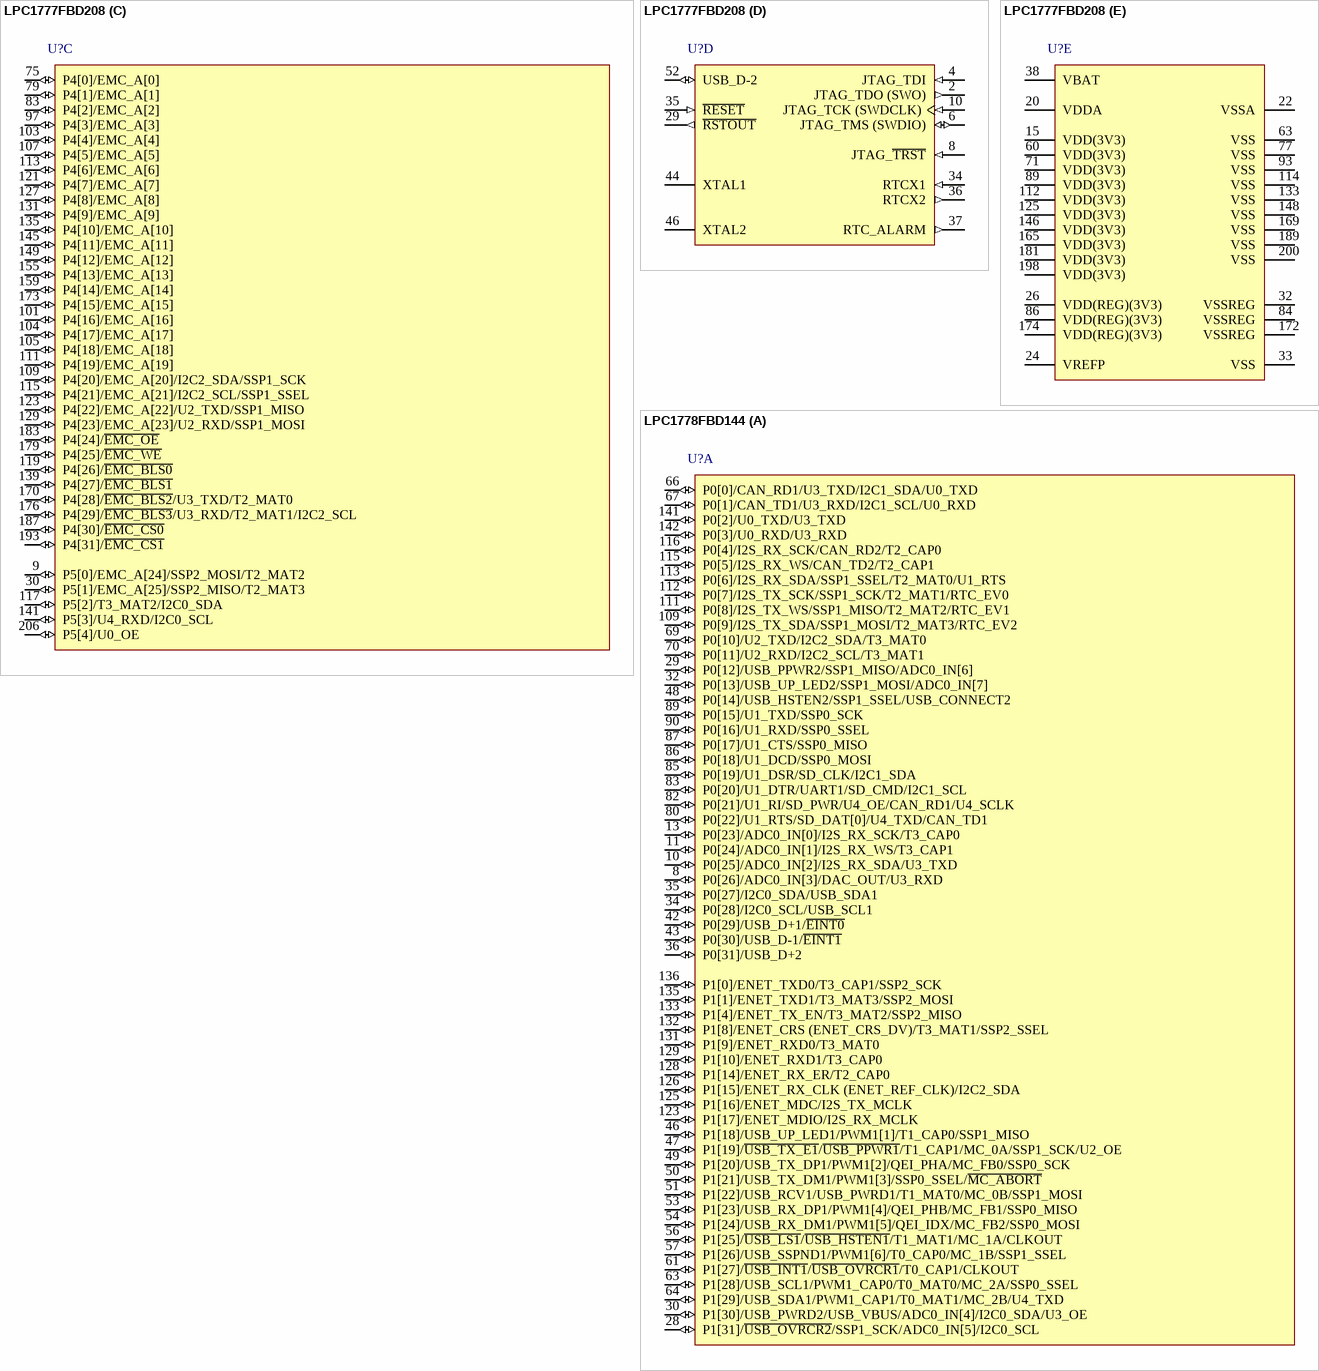
[diagram p14: symbols LPC1777FBD208 to LPC1778FBD144]